# Altium schematic symbol library MCU_ST_STM32F7.SchLib: 113 symbols (part 5 of 7)
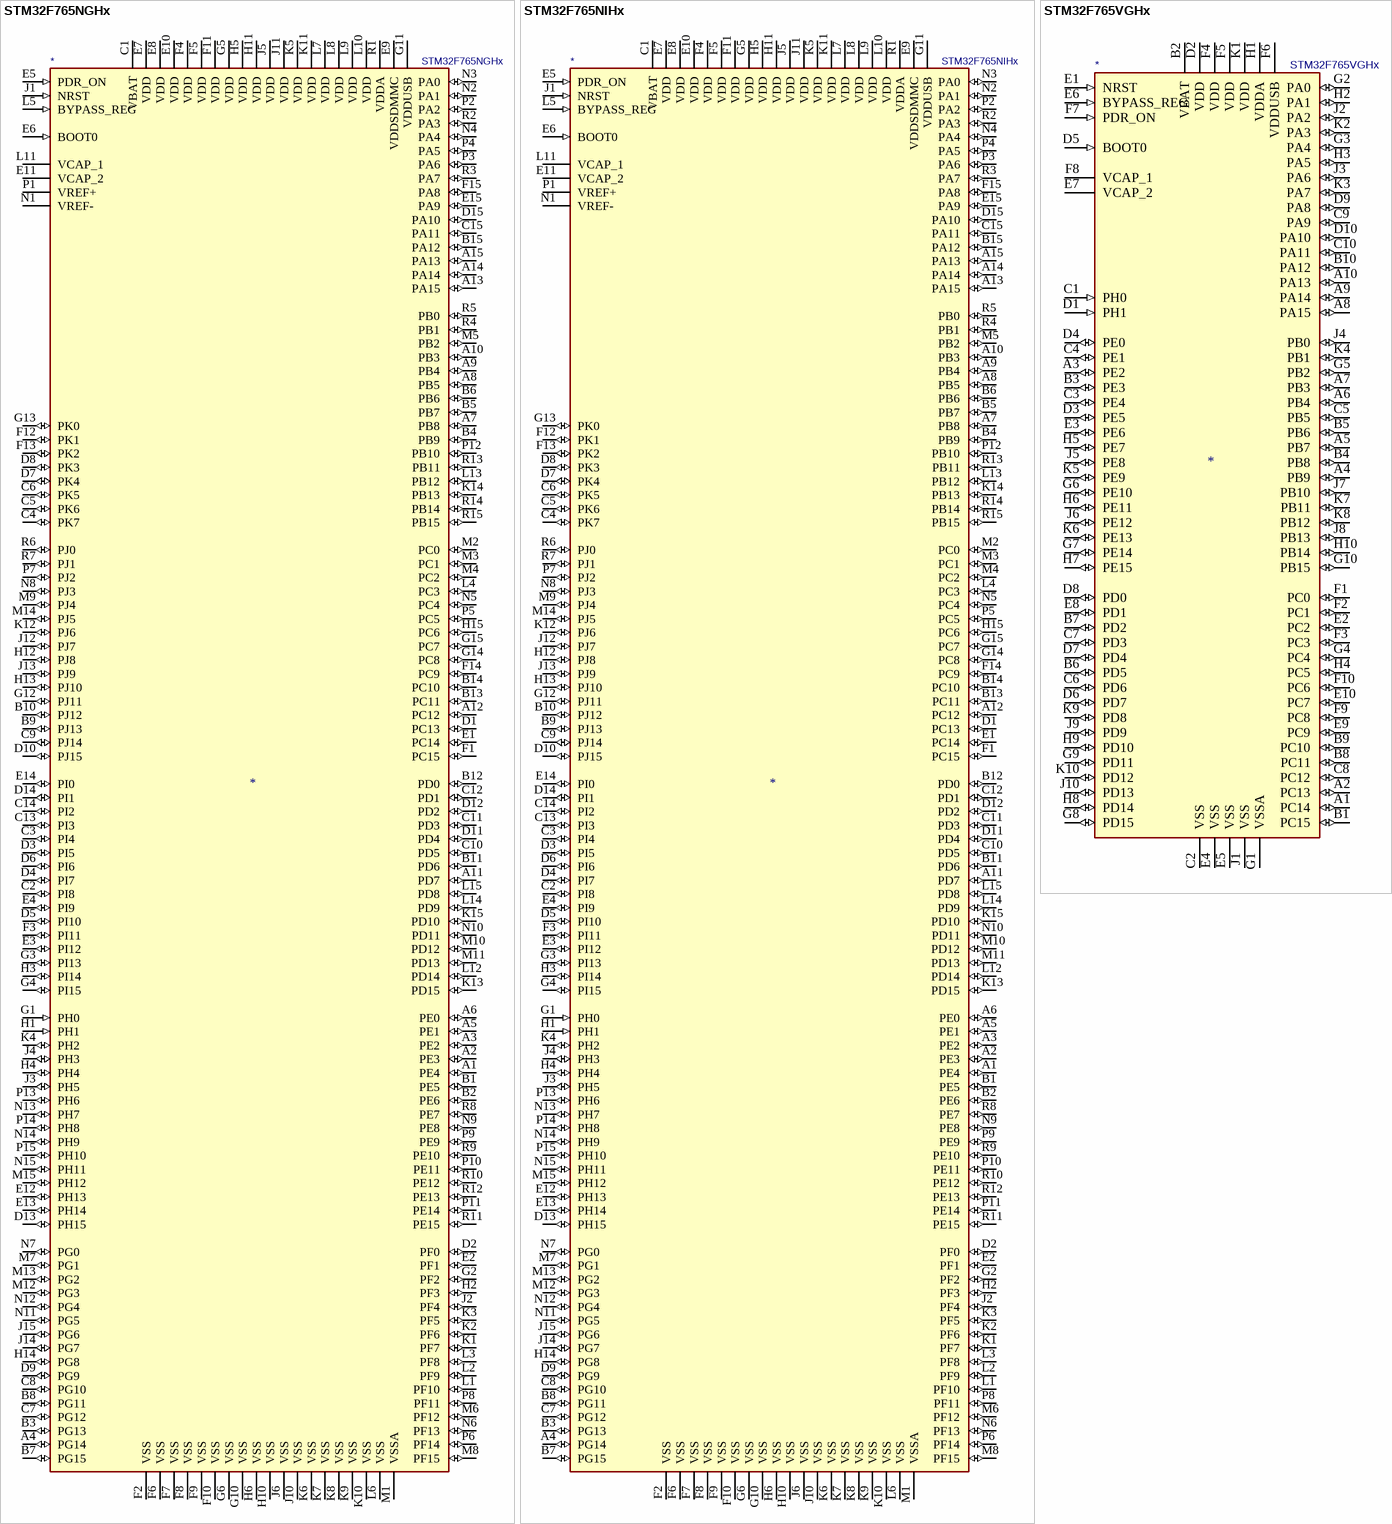
[diagram p45: symbols STM32F765NGHx to STM32F765VGHx]

## STM32F765VGHx
designator *  value STM32F765VGHx
ki_keywords: ARM Cortex-M7 STM32F7 STM32F7x5; ki_description: ARM Cortex-M7 MCU, 1024KB flash, 384KB RAM, 82 GPIO, TFBGA-100; ki_fp_filters: TFBGA*8x8mm*Layout10x10*P0.8mm*; Footprint: Package_BGA:TFBGA-100_8x8mm_Layout10x10_P0.8mm; Supplier: http://www.st.com/st-web-ui/static/active/en/resource/technical/document/datasheet/DM00273119.pdf
footprint TFBGA-100_8x8mm_Layout10x10_P0.8mm
pins: A1 PC14 (io), A2 PC13 (io), A3 PE2 (io), A4 PB9 (io), A5 PB7 (io), A6 PB4 (io), A7 PB3 (io), A8 PA15 (io), A9 PA14 (io), A10 PA13 (io), B1 PC15 (io), B2 VBAT (power), B3 PE3 (io), B4 PB8 (io), B5 PB6 (io), B6 PD5 (io), B7 PD2 (io), B8 PC11 (io), B9 PC10 (io), B10 PA12 (io), C1 PH0 (in), C2 VSS (power), C3 PE4 (io), C4 PE1 (io), C5 PB5 (io), C6 PD6 (io), C7 PD3 (io), C8 PC12 (io), C9 PA9 (io), C10 PA11 (io), D1 PH1 (in), D2 VDD (power), D3 PE5 (io), D4 PE0 (io), D5 BOOT0 (in), D6 PD7 (io), D7 PD4 (io), D8 PD0 (io), D9 PA8 (io), D10 PA10 (io), E1 NRST (in), E2 PC2 (io), E3 PE6 (io), E4 VSS (power), E5 VSS (power), E6 BYPASS_REG (in), E7 VCAP_2 (power), E8 PD1 (io), E9 PC9 (io), E10 PC7 (io), F1 PC0 (io), F2 PC1 (io), F3 PC3 (io), F4 VDD (power), F5 VDD (power), F6 VDDUSB (power), F7 PDR_ON (in), F8 VCAP_1 (power), F9 PC8 (io), F10 PC6 (io), G1 VSSA (power), G2 PA0 (io), G3 PA4 (io), G4 PC4 (io), G5 PB2 (io), G6 PE10 (io), G7 PE14 (io), G8 PD15 (io), G9 PD11 (io), G10 PB15 (io), H1 VDDA (power), H2 PA1 (io), H3 PA5 (io), H4 PC5 (io), H5 PE7 (io), H6 PE11 (io), H7 PE15 (io), H8 PD14 (io), H9 PD10 (io), H10 PB14 (io), J1 VSS (power), J2 PA2 (io), J3 PA6 (io), J4 PB0 (io), J5 PE8 (io), J6 PE12 (io), J7 PB10 (io), J8 PB13 (io), J9 PD9 (io), J10 PD13 (io), K1 VDD (power), K2 PA3 (io), K3 PA7 (io), K4 PB1 (io), K5 PE9 (io), K6 PE13 (io), K7 PB11 (io), K8 PB12 (io), K9 PD8 (io), K10 PD12 (io)

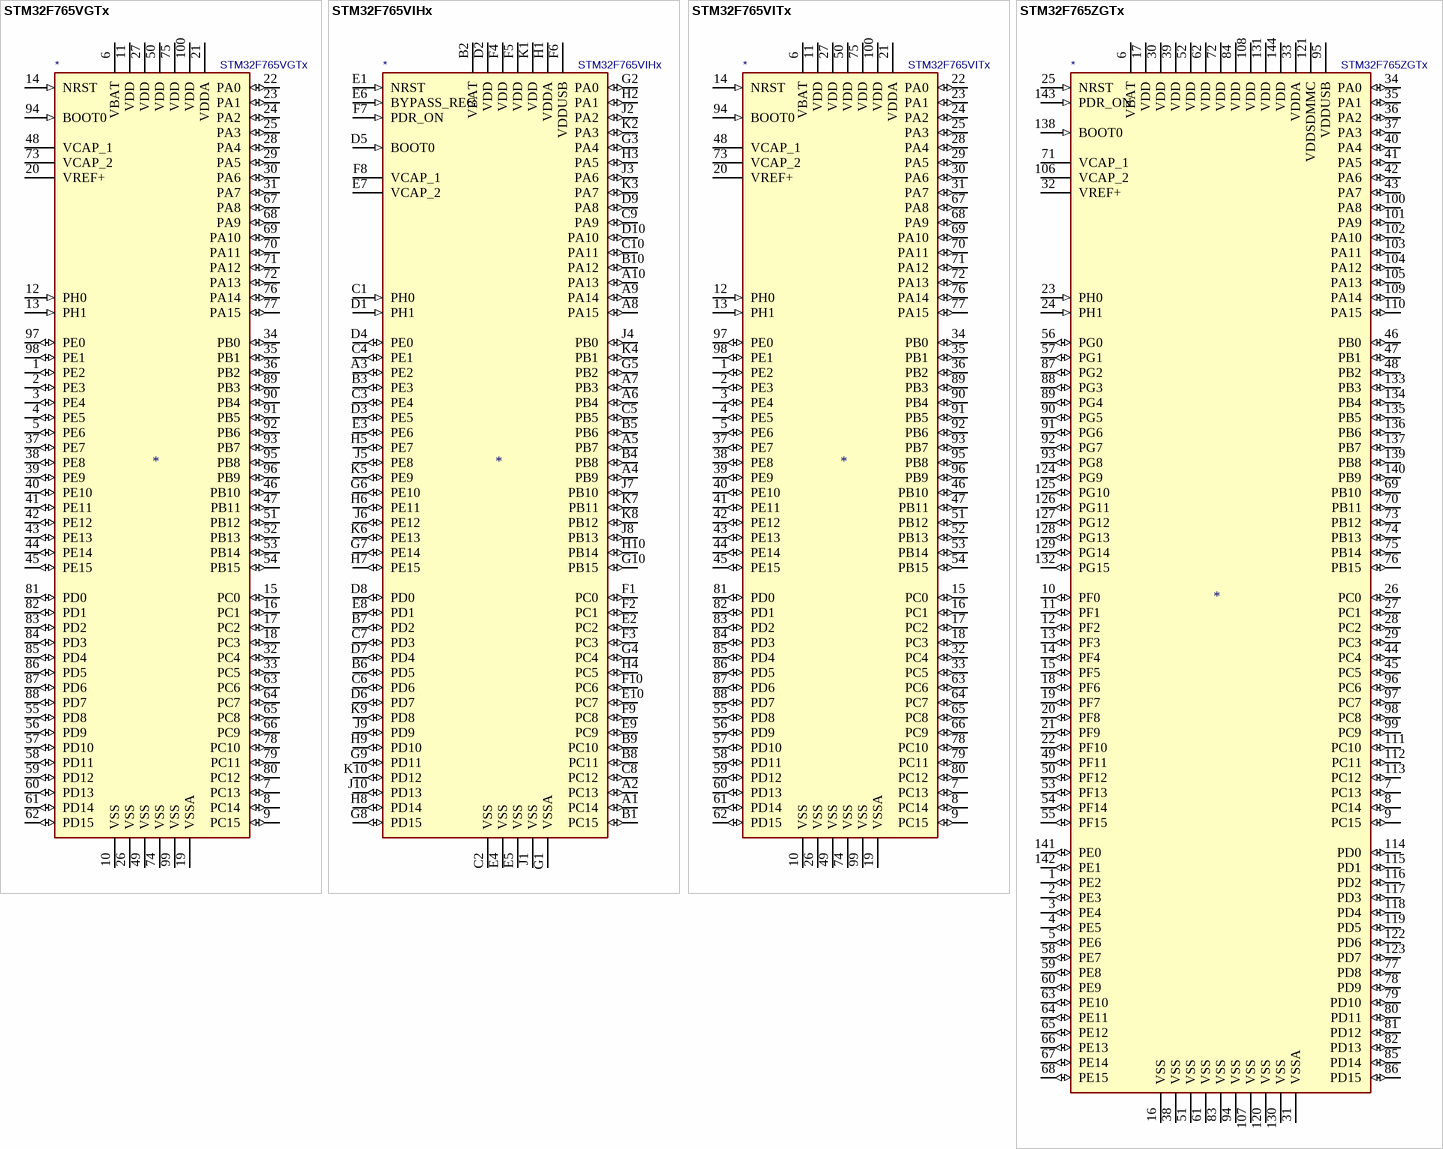
[diagram p27: symbols STM32F765VGTx to STM32F765ZGTx]

## STM32F765VGTx
designator *  value STM32F765VGTx
ki_keywords: ARM Cortex-M7 STM32F7 STM32F7x5; ki_description: ARM Cortex-M7 MCU, 1024KB flash, 384KB RAM, 216MHz, 1.7-3.6V, 82 GPIO, LQFP-100; ki_fp_filters: LQFP*14x14mm*P0.5mm*; Footprint: Package_QFP:LQFP-100_14x14mm_P0.5mm; Supplier: http://www.st.com/st-web-ui/static/active/en/resource/technical/document/datasheet/DM00273119.pdf
footprint LQFP-100_14x14mm_P0.5mm
pins: 1 PE2 (io), 2 PE3 (io), 3 PE4 (io), 4 PE5 (io), 5 PE6 (io), 6 VBAT (power), 7 PC13 (io), 8 PC14 (io), 9 PC15 (io), 10 VSS (power), 11 VDD (power), 12 PH0 (in), 13 PH1 (in), 14 NRST (in), 15 PC0 (io), 16 PC1 (io), 17 PC2 (io), 18 PC3 (io), 19 VSSA (power), 20 VREF+ (power), 21 VDDA (power), 22 PA0 (io), 23 PA1 (io), 24 PA2 (io), 25 PA3 (io), 26 VSS (power), 27 VDD (power), 28 PA4 (io), 29 PA5 (io), 30 PA6 (io), 31 PA7 (io), 32 PC4 (io), 33 PC5 (io), 34 PB0 (io), 35 PB1 (io), 36 PB2 (io), 37 PE7 (io), 38 PE8 (io), 39 PE9 (io), 40 PE10 (io), 41 PE11 (io), 42 PE12 (io), 43 PE13 (io), 44 PE14 (io), 45 PE15 (io), 46 PB10 (io), 47 PB11 (io), 48 VCAP_1 (power), 49 VSS (power), 50 VDD (power), 51 PB12 (io), 52 PB13 (io), 53 PB14 (io), 54 PB15 (io), 55 PD8 (io), 56 PD9 (io), 57 PD10 (io), 58 PD11 (io), 59 PD12 (io), 60 PD13 (io), 61 PD14 (io), 62 PD15 (io), 63 PC6 (io), 64 PC7 (io), 65 PC8 (io), 66 PC9 (io), 67 PA8 (io), 68 PA9 (io), 69 PA10 (io), 70 PA11 (io), 71 PA12 (io), 72 PA13 (io), 73 VCAP_2 (power), 74 VSS (power), 75 VDD (power), 76 PA14 (io), 77 PA15 (io), 78 PC10 (io), 79 PC11 (io), 80 PC12 (io), 81 PD0 (io), 82 PD1 (io), 83 PD2 (io), 84 PD3 (io), 85 PD4 (io), 86 PD5 (io), 87 PD6 (io), 88 PD7 (io), 89 PB3 (io), 90 PB4 (io), 91 PB5 (io), 92 PB6 (io), 93 PB7 (io), 94 BOOT0 (in), 95 PB8 (io), 96 PB9 (io), 97 PE0 (io), 98 PE1 (io), 99 VSS (power), 100 VDD (power)

## STM32F765VIHx
designator *  value STM32F765VIHx
ki_keywords: ARM Cortex-M7 STM32F7 STM32F7x5; ki_description: ARM Cortex-M7 MCU, 2048KB flash, 384KB RAM, 82 GPIO, TFBGA-100; ki_fp_filters: TFBGA*8x8mm*Layout10x10*P0.8mm*; Footprint: Package_BGA:TFBGA-100_8x8mm_Layout10x10_P0.8mm; Supplier: http://www.st.com/st-web-ui/static/active/en/resource/technical/document/datasheet/DM00273119.pdf
footprint TFBGA-100_8x8mm_Layout10x10_P0.8mm
pins: A1 PC14 (io), A2 PC13 (io), A3 PE2 (io), A4 PB9 (io), A5 PB7 (io), A6 PB4 (io), A7 PB3 (io), A8 PA15 (io), A9 PA14 (io), A10 PA13 (io), B1 PC15 (io), B2 VBAT (power), B3 PE3 (io), B4 PB8 (io), B5 PB6 (io), B6 PD5 (io), B7 PD2 (io), B8 PC11 (io), B9 PC10 (io), B10 PA12 (io), C1 PH0 (in), C2 VSS (power), C3 PE4 (io), C4 PE1 (io), C5 PB5 (io), C6 PD6 (io), C7 PD3 (io), C8 PC12 (io), C9 PA9 (io), C10 PA11 (io), D1 PH1 (in), D2 VDD (power), D3 PE5 (io), D4 PE0 (io), D5 BOOT0 (in), D6 PD7 (io), D7 PD4 (io), D8 PD0 (io), D9 PA8 (io), D10 PA10 (io), E1 NRST (in), E2 PC2 (io), E3 PE6 (io), E4 VSS (power), E5 VSS (power), E6 BYPASS_REG (in), E7 VCAP_2 (power), E8 PD1 (io), E9 PC9 (io), E10 PC7 (io), F1 PC0 (io), F2 PC1 (io), F3 PC3 (io), F4 VDD (power), F5 VDD (power), F6 VDDUSB (power), F7 PDR_ON (in), F8 VCAP_1 (power), F9 PC8 (io), F10 PC6 (io), G1 VSSA (power), G2 PA0 (io), G3 PA4 (io), G4 PC4 (io), G5 PB2 (io), G6 PE10 (io), G7 PE14 (io), G8 PD15 (io), G9 PD11 (io), G10 PB15 (io), H1 VDDA (power), H2 PA1 (io), H3 PA5 (io), H4 PC5 (io), H5 PE7 (io), H6 PE11 (io), H7 PE15 (io), H8 PD14 (io), H9 PD10 (io), H10 PB14 (io), J1 VSS (power), J2 PA2 (io), J3 PA6 (io), J4 PB0 (io), J5 PE8 (io), J6 PE12 (io), J7 PB10 (io), J8 PB13 (io), J9 PD9 (io), J10 PD13 (io), K1 VDD (power), K2 PA3 (io), K3 PA7 (io), K4 PB1 (io), K5 PE9 (io), K6 PE13 (io), K7 PB11 (io), K8 PB12 (io), K9 PD8 (io), K10 PD12 (io)

## STM32F765VITx
designator *  value STM32F765VITx
ki_keywords: ARM Cortex-M7 STM32F7 STM32F7x5; ki_description: ARM Cortex-M7 MCU, 2048KB flash, 384KB RAM, 216MHz, 1.7-3.6V, 82 GPIO, LQFP-100; ki_fp_filters: LQFP*14x14mm*P0.5mm*; Footprint: Package_QFP:LQFP-100_14x14mm_P0.5mm; Supplier: http://www.st.com/st-web-ui/static/active/en/resource/technical/document/datasheet/DM00273119.pdf
footprint LQFP-100_14x14mm_P0.5mm
pins: 1 PE2 (io), 2 PE3 (io), 3 PE4 (io), 4 PE5 (io), 5 PE6 (io), 6 VBAT (power), 7 PC13 (io), 8 PC14 (io), 9 PC15 (io), 10 VSS (power), 11 VDD (power), 12 PH0 (in), 13 PH1 (in), 14 NRST (in), 15 PC0 (io), 16 PC1 (io), 17 PC2 (io), 18 PC3 (io), 19 VSSA (power), 20 VREF+ (power), 21 VDDA (power), 22 PA0 (io), 23 PA1 (io), 24 PA2 (io), 25 PA3 (io), 26 VSS (power), 27 VDD (power), 28 PA4 (io), 29 PA5 (io), 30 PA6 (io), 31 PA7 (io), 32 PC4 (io), 33 PC5 (io), 34 PB0 (io), 35 PB1 (io), 36 PB2 (io), 37 PE7 (io), 38 PE8 (io), 39 PE9 (io), 40 PE10 (io), 41 PE11 (io), 42 PE12 (io), 43 PE13 (io), 44 PE14 (io), 45 PE15 (io), 46 PB10 (io), 47 PB11 (io), 48 VCAP_1 (power), 49 VSS (power), 50 VDD (power), 51 PB12 (io), 52 PB13 (io), 53 PB14 (io), 54 PB15 (io), 55 PD8 (io), 56 PD9 (io), 57 PD10 (io), 58 PD11 (io), 59 PD12 (io), 60 PD13 (io), 61 PD14 (io), 62 PD15 (io), 63 PC6 (io), 64 PC7 (io), 65 PC8 (io), 66 PC9 (io), 67 PA8 (io), 68 PA9 (io), 69 PA10 (io), 70 PA11 (io), 71 PA12 (io), 72 PA13 (io), 73 VCAP_2 (power), 74 VSS (power), 75 VDD (power), 76 PA14 (io), 77 PA15 (io), 78 PC10 (io), 79 PC11 (io), 80 PC12 (io), 81 PD0 (io), 82 PD1 (io), 83 PD2 (io), 84 PD3 (io), 85 PD4 (io), 86 PD5 (io), 87 PD6 (io), 88 PD7 (io), 89 PB3 (io), 90 PB4 (io), 91 PB5 (io), 92 PB6 (io), 93 PB7 (io), 94 BOOT0 (in), 95 PB8 (io), 96 PB9 (io), 97 PE0 (io), 98 PE1 (io), 99 VSS (power), 100 VDD (power)

## STM32F765ZGTx
designator *  value STM32F765ZGTx
ki_keywords: ARM Cortex-M7 STM32F7 STM32F7x5; ki_description: ARM Cortex-M7 MCU, 1024KB flash, 384KB RAM, 216MHz, 1.7-3.6V, 114 GPIO, LQFP-144; ki_fp_filters: LQFP*20x20mm*P0.5mm*; Footprint: Package_QFP:LQFP-144_20x20mm_P0.5mm; Supplier: http://www.st.com/st-web-ui/static/active/en/resource/technical/document/datasheet/DM00273119.pdf
footprint LQFP-144_20x20mm_P0.5mm
pins: 1 PE2 (io), 2 PE3 (io), 3 PE4 (io), 4 PE5 (io), 5 PE6 (io), 6 VBAT (power), 7 PC13 (io), 8 PC14 (io), 9 PC15 (io), 10 PF0 (io), 11 PF1 (io), 12 PF2 (io), 13 PF3 (io), 14 PF4 (io), 15 PF5 (io), 16 VSS (power), 17 VDD (power), 18 PF6 (io), 19 PF7 (io), 20 PF8 (io), 21 PF9 (io), 22 PF10 (io), 23 PH0 (in), 24 PH1 (in), 25 NRST (in), 26 PC0 (io), 27 PC1 (io), 28 PC2 (io), 29 PC3 (io), 30 VDD (power), 31 VSSA (power), 32 VREF+ (power), 33 VDDA (power), 34 PA0 (io), 35 PA1 (io), 36 PA2 (io), 37 PA3 (io), 38 VSS (power), 39 VDD (power), 40 PA4 (io), 41 PA5 (io), 42 PA6 (io), 43 PA7 (io), 44 PC4 (io), 45 PC5 (io), 46 PB0 (io), 47 PB1 (io), 48 PB2 (io), 49 PF11 (io), 50 PF12 (io), 51 VSS (power), 52 VDD (power), 53 PF13 (io), 54 PF14 (io), 55 PF15 (io), 56 PG0 (io), 57 PG1 (io), 58 PE7 (io), 59 PE8 (io), 60 PE9 (io), 61 VSS (power), 62 VDD (power), 63 PE10 (io), 64 PE11 (io), 65 PE12 (io), 66 PE13 (io), 67 PE14 (io), 68 PE15 (io), 69 PB10 (io), 70 PB11 (io), 71 VCAP_1 (power), 72 VDD (power), 73 PB12 (io), 74 PB13 (io), 75 PB14 (io), 76 PB15 (io), 77 PD8 (io), 78 PD9 (io), 79 PD10 (io), 80 PD11 (io), 81 PD12 (io), 82 PD13 (io), 83 VSS (power), 84 VDD (power), 85 PD14 (io), 86 PD15 (io), 87 PG2 (io), 88 PG3 (io), 89 PG4 (io), 90 PG5 (io), 91 PG6 (io), 92 PG7 (io), 93 PG8 (io), 94 VSS (power), 95 VDDUSB (power), 96 PC6 (io), 97 PC7 (io), 98 PC8 (io), 99 PC9 (io), 100 PA8 (io), 101 PA9 (io), 102 PA10 (io), 103 PA11 (io), 104 PA12 (io), 105 PA13 (io), 106 VCAP_2 (power), 107 VSS (power), 108 VDD (power), 109 PA14 (io), 110 PA15 (io), 111 PC10 (io), 112 PC11 (io), 113 PC12 (io), 114 PD0 (io), 115 PD1 (io), 116 PD2 (io), 117 PD3 (io), 118 PD4 (io), 119 PD5 (io), 120 VSS (power), 121 VDDSDMMC (power), 122 PD6 (io), 123 PD7 (io), 124 PG9 (io), 125 PG10 (io), 126 PG11 (io), 127 PG12 (io), 128 PG13 (io), 129 PG14 (io), 130 VSS (power), 131 VDD (power), 132 PG15 (io), 133 PB3 (io), 134 PB4 (io), 135 PB5 (io), 136 PB6 (io), 137 PB7 (io), 138 BOOT0 (in), 139 PB8 (io), 140 PB9 (io), 141 PE0 (io), 142 PE1 (io), 143 PDR_ON (in), 144 VDD (power)

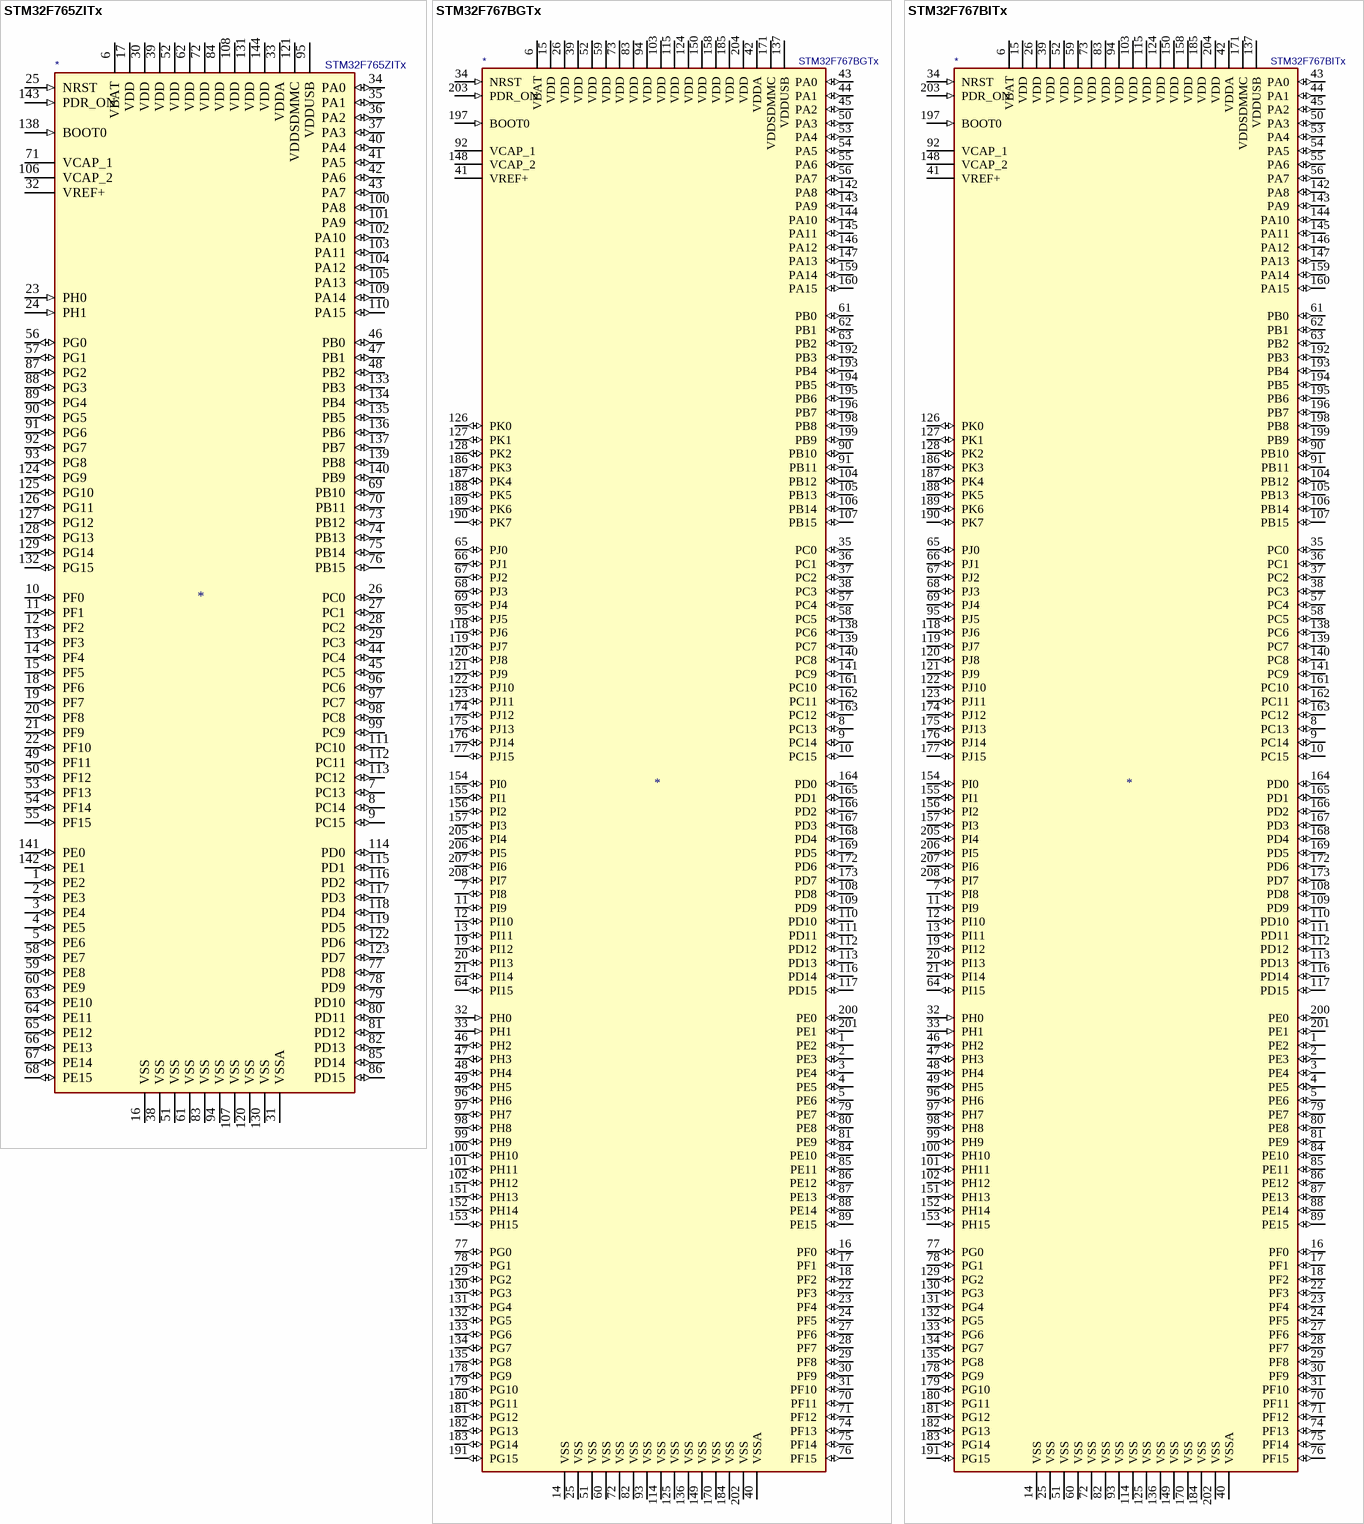
[diagram p28: symbols STM32F765ZITx to STM32F767BITx]

## STM32F765ZITx
designator *  value STM32F765ZITx
ki_keywords: ARM Cortex-M7 STM32F7 STM32F7x5; ki_description: ARM Cortex-M7 MCU, 2048KB flash, 384KB RAM, 216MHz, 1.7-3.6V, 114 GPIO, LQFP-144; ki_fp_filters: LQFP*20x20mm*P0.5mm*; Footprint: Package_QFP:LQFP-144_20x20mm_P0.5mm; Supplier: http://www.st.com/st-web-ui/static/active/en/resource/technical/document/datasheet/DM00273119.pdf
footprint LQFP-144_20x20mm_P0.5mm
pins: 1 PE2 (io), 2 PE3 (io), 3 PE4 (io), 4 PE5 (io), 5 PE6 (io), 6 VBAT (power), 7 PC13 (io), 8 PC14 (io), 9 PC15 (io), 10 PF0 (io), 11 PF1 (io), 12 PF2 (io), 13 PF3 (io), 14 PF4 (io), 15 PF5 (io), 16 VSS (power), 17 VDD (power), 18 PF6 (io), 19 PF7 (io), 20 PF8 (io), 21 PF9 (io), 22 PF10 (io), 23 PH0 (in), 24 PH1 (in), 25 NRST (in), 26 PC0 (io), 27 PC1 (io), 28 PC2 (io), 29 PC3 (io), 30 VDD (power), 31 VSSA (power), 32 VREF+ (power), 33 VDDA (power), 34 PA0 (io), 35 PA1 (io), 36 PA2 (io), 37 PA3 (io), 38 VSS (power), 39 VDD (power), 40 PA4 (io), 41 PA5 (io), 42 PA6 (io), 43 PA7 (io), 44 PC4 (io), 45 PC5 (io), 46 PB0 (io), 47 PB1 (io), 48 PB2 (io), 49 PF11 (io), 50 PF12 (io), 51 VSS (power), 52 VDD (power), 53 PF13 (io), 54 PF14 (io), 55 PF15 (io), 56 PG0 (io), 57 PG1 (io), 58 PE7 (io), 59 PE8 (io), 60 PE9 (io), 61 VSS (power), 62 VDD (power), 63 PE10 (io), 64 PE11 (io), 65 PE12 (io), 66 PE13 (io), 67 PE14 (io), 68 PE15 (io), 69 PB10 (io), 70 PB11 (io), 71 VCAP_1 (power), 72 VDD (power), 73 PB12 (io), 74 PB13 (io), 75 PB14 (io), 76 PB15 (io), 77 PD8 (io), 78 PD9 (io), 79 PD10 (io), 80 PD11 (io), 81 PD12 (io), 82 PD13 (io), 83 VSS (power), 84 VDD (power), 85 PD14 (io), 86 PD15 (io), 87 PG2 (io), 88 PG3 (io), 89 PG4 (io), 90 PG5 (io), 91 PG6 (io), 92 PG7 (io), 93 PG8 (io), 94 VSS (power), 95 VDDUSB (power), 96 PC6 (io), 97 PC7 (io), 98 PC8 (io), 99 PC9 (io), 100 PA8 (io), 101 PA9 (io), 102 PA10 (io), 103 PA11 (io), 104 PA12 (io), 105 PA13 (io), 106 VCAP_2 (power), 107 VSS (power), 108 VDD (power), 109 PA14 (io), 110 PA15 (io), 111 PC10 (io), 112 PC11 (io), 113 PC12 (io), 114 PD0 (io), 115 PD1 (io), 116 PD2 (io), 117 PD3 (io), 118 PD4 (io), 119 PD5 (io), 120 VSS (power), 121 VDDSDMMC (power), 122 PD6 (io), 123 PD7 (io), 124 PG9 (io), 125 PG10 (io), 126 PG11 (io), 127 PG12 (io), 128 PG13 (io), 129 PG14 (io), 130 VSS (power), 131 VDD (power), 132 PG15 (io), 133 PB3 (io), 134 PB4 (io), 135 PB5 (io), 136 PB6 (io), 137 PB7 (io), 138 BOOT0 (in), 139 PB8 (io), 140 PB9 (io), 141 PE0 (io), 142 PE1 (io), 143 PDR_ON (in), 144 VDD (power)

## STM32F767BGTx
designator *  value STM32F767BGTx
ki_keywords: ARM Cortex-M7 STM32F7 STM32F7x7; ki_description: ARM Cortex-M7 MCU, 1024KB flash, 384KB RAM, 216MHz, 1.7-3.6V, 168 GPIO, LQFP-208; ki_fp_filters: LQFP*28x28mm*P0.5mm*; Footprint: Package_QFP:LQFP-208_28x28mm_P0.5mm; Supplier: http://www.st.com/st-web-ui/static/active/en/resource/technical/document/datasheet/DM00273119.pdf
footprint LQFP-208_28x28mm_P0.5mm
pins: 1 PE2 (io), 2 PE3 (io), 3 PE4 (io), 4 PE5 (io), 5 PE6 (io), 6 VBAT (power), 7 PI8 (io), 8 PC13 (io), 9 PC14 (io), 10 PC15 (io), 11 PI9 (io), 12 PI10 (io), 13 PI11 (io), 14 VSS (power), 15 VDD (power), 16 PF0 (io), 17 PF1 (io), 18 PF2 (io), 19 PI12 (io), 20 PI13 (io), 21 PI14 (io), 22 PF3 (io), 23 PF4 (io), 24 PF5 (io), 25 VSS (power), 26 VDD (power), 27 PF6 (io), 28 PF7 (io), 29 PF8 (io), 30 PF9 (io), 31 PF10 (io), 32 PH0 (in), 33 PH1 (in), 34 NRST (in), 35 PC0 (io), 36 PC1 (io), 37 PC2 (io), 38 PC3 (io), 39 VDD (power), 40 VSSA (power), 41 VREF+ (power), 42 VDDA (power), 43 PA0 (io), 44 PA1 (io), 45 PA2 (io), 46 PH2 (io), 47 PH3 (io), 48 PH4 (io), 49 PH5 (io), 50 PA3 (io), 51 VSS (power), 52 VDD (power), 53 PA4 (io), 54 PA5 (io), 55 PA6 (io), 56 PA7 (io), 57 PC4 (io), 58 PC5 (io), 59 VDD (power), 60 VSS (power), 61 PB0 (io), 62 PB1 (io), 63 PB2 (io), 64 PI15 (io), 65 PJ0 (io), 66 PJ1 (io), 67 PJ2 (io), 68 PJ3 (io), 69 PJ4 (io), 70 PF11 (io), 71 PF12 (io), 72 VSS (power), 73 VDD (power), 74 PF13 (io), 75 PF14 (io), 76 PF15 (io), 77 PG0 (io), 78 PG1 (io), 79 PE7 (io), 80 PE8 (io), 81 PE9 (io), 82 VSS (power), 83 VDD (power), 84 PE10 (io), 85 PE11 (io), 86 PE12 (io), 87 PE13 (io), 88 PE14 (io), 89 PE15 (io), 90 PB10 (io), 91 PB11 (io), 92 VCAP_1 (power), 93 VSS (power), 94 VDD (power), 95 PJ5 (io), 96 PH6 (io), 97 PH7 (io), 98 PH8 (io), 99 PH9 (io), 100 PH10 (io), 101 PH11 (io), 102 PH12 (io), 103 VDD (power), 104 PB12 (io), 105 PB13 (io), 106 PB14 (io), 107 PB15 (io), 108 PD8 (io), 109 PD9 (io), 110 PD10 (io), 111 PD11 (io), 112 PD12 (io), 113 PD13 (io), 114 VSS (power), 115 VDD (power), 116 PD14 (io), 117 PD15 (io), 118 PJ6 (io), 119 PJ7 (io), 120 PJ8 (io), 121 PJ9 (io), 122 PJ10 (io), 123 PJ11 (io), 124 VDD (power), 125 VSS (power), 126 PK0 (io), 127 PK1 (io), 128 PK2 (io), 129 PG2 (io), 130 PG3 (io), 131 PG4 (io), 132 PG5 (io), 133 PG6 (io), 134 PG7 (io), 135 PG8 (io), 136 VSS (power), 137 VDDUSB (power), 138 PC6 (io), 139 PC7 (io), 140 PC8 (io), 141 PC9 (io), 142 PA8 (io), 143 PA9 (io), 144 PA10 (io), 145 PA11 (io), 146 PA12 (io), 147 PA13 (io), 148 VCAP_2 (power), 149 VSS (power), 150 VDD (power), 151 PH13 (io), 152 PH14 (io), 153 PH15 (io), 154 PI0 (io), 155 PI1 (io), 156 PI2 (io), 157 PI3 (io), 158 VDD (power), 159 PA14 (io), 160 PA15 (io), 161 PC10 (io), 162 PC11 (io), 163 PC12 (io), 164 PD0 (io), 165 PD1 (io), 166 PD2 (io), 167 PD3 (io), 168 PD4 (io), 169 PD5 (io), 170 VSS (power), 171 VDDSDMMC (power), 172 PD6 (io), 173 PD7 (io), 174 PJ12 (io), 175 PJ13 (io), 176 PJ14 (io), 177 PJ15 (io), 178 PG9 (io), 179 PG10 (io), 180 PG11 (io), 181 PG12 (io), 182 PG13 (io), 183 PG14 (io), 184 VSS (power), 185 VDD (power), 186 PK3 (io), 187 PK4 (io), 188 PK5 (io), 189 PK6 (io), 190 PK7 (io), 191 PG15 (io), 192 PB3 (io), 193 PB4 (io), 194 PB5 (io), 195 PB6 (io), 196 PB7 (io), 197 BOOT0 (in), 198 PB8 (io), 199 PB9 (io), 200 PE0 (io), 201 PE1 (io), 202 VSS (power), 203 PDR_ON (in), 204 VDD (power), 205 PI4 (io), 206 PI5 (io), 207 PI6 (io), 208 PI7 (io)

## STM32F767BITx
designator *  value STM32F767BITx
ki_keywords: ARM Cortex-M7 STM32F7 STM32F7x7; ki_description: ARM Cortex-M7 MCU, 2048KB flash, 384KB RAM, 216MHz, 1.7-3.6V, 168 GPIO, LQFP-208; ki_fp_filters: LQFP*28x28mm*P0.5mm*; Footprint: Package_QFP:LQFP-208_28x28mm_P0.5mm; Supplier: http://www.st.com/st-web-ui/static/active/en/resource/technical/document/datasheet/DM00273119.pdf
footprint LQFP-208_28x28mm_P0.5mm
pins: 1 PE2 (io), 2 PE3 (io), 3 PE4 (io), 4 PE5 (io), 5 PE6 (io), 6 VBAT (power), 7 PI8 (io), 8 PC13 (io), 9 PC14 (io), 10 PC15 (io), 11 PI9 (io), 12 PI10 (io), 13 PI11 (io), 14 VSS (power), 15 VDD (power), 16 PF0 (io), 17 PF1 (io), 18 PF2 (io), 19 PI12 (io), 20 PI13 (io), 21 PI14 (io), 22 PF3 (io), 23 PF4 (io), 24 PF5 (io), 25 VSS (power), 26 VDD (power), 27 PF6 (io), 28 PF7 (io), 29 PF8 (io), 30 PF9 (io), 31 PF10 (io), 32 PH0 (in), 33 PH1 (in), 34 NRST (in), 35 PC0 (io), 36 PC1 (io), 37 PC2 (io), 38 PC3 (io), 39 VDD (power), 40 VSSA (power), 41 VREF+ (power), 42 VDDA (power), 43 PA0 (io), 44 PA1 (io), 45 PA2 (io), 46 PH2 (io), 47 PH3 (io), 48 PH4 (io), 49 PH5 (io), 50 PA3 (io), 51 VSS (power), 52 VDD (power), 53 PA4 (io), 54 PA5 (io), 55 PA6 (io), 56 PA7 (io), 57 PC4 (io), 58 PC5 (io), 59 VDD (power), 60 VSS (power), 61 PB0 (io), 62 PB1 (io), 63 PB2 (io), 64 PI15 (io), 65 PJ0 (io), 66 PJ1 (io), 67 PJ2 (io), 68 PJ3 (io), 69 PJ4 (io), 70 PF11 (io), 71 PF12 (io), 72 VSS (power), 73 VDD (power), 74 PF13 (io), 75 PF14 (io), 76 PF15 (io), 77 PG0 (io), 78 PG1 (io), 79 PE7 (io), 80 PE8 (io), 81 PE9 (io), 82 VSS (power), 83 VDD (power), 84 PE10 (io), 85 PE11 (io), 86 PE12 (io), 87 PE13 (io), 88 PE14 (io), 89 PE15 (io), 90 PB10 (io), 91 PB11 (io), 92 VCAP_1 (power), 93 VSS (power), 94 VDD (power), 95 PJ5 (io), 96 PH6 (io), 97 PH7 (io), 98 PH8 (io), 99 PH9 (io), 100 PH10 (io), 101 PH11 (io), 102 PH12 (io), 103 VDD (power), 104 PB12 (io), 105 PB13 (io), 106 PB14 (io), 107 PB15 (io), 108 PD8 (io), 109 PD9 (io), 110 PD10 (io), 111 PD11 (io), 112 PD12 (io), 113 PD13 (io), 114 VSS (power), 115 VDD (power), 116 PD14 (io), 117 PD15 (io), 118 PJ6 (io), 119 PJ7 (io), 120 PJ8 (io), 121 PJ9 (io), 122 PJ10 (io), 123 PJ11 (io), 124 VDD (power), 125 VSS (power), 126 PK0 (io), 127 PK1 (io), 128 PK2 (io), 129 PG2 (io), 130 PG3 (io), 131 PG4 (io), 132 PG5 (io), 133 PG6 (io), 134 PG7 (io), 135 PG8 (io), 136 VSS (power), 137 VDDUSB (power), 138 PC6 (io), 139 PC7 (io), 140 PC8 (io), 141 PC9 (io), 142 PA8 (io), 143 PA9 (io), 144 PA10 (io), 145 PA11 (io), 146 PA12 (io), 147 PA13 (io), 148 VCAP_2 (power), 149 VSS (power), 150 VDD (power), 151 PH13 (io), 152 PH14 (io), 153 PH15 (io), 154 PI0 (io), 155 PI1 (io), 156 PI2 (io), 157 PI3 (io), 158 VDD (power), 159 PA14 (io), 160 PA15 (io), 161 PC10 (io), 162 PC11 (io), 163 PC12 (io), 164 PD0 (io), 165 PD1 (io), 166 PD2 (io), 167 PD3 (io), 168 PD4 (io), 169 PD5 (io), 170 VSS (power), 171 VDDSDMMC (power), 172 PD6 (io), 173 PD7 (io), 174 PJ12 (io), 175 PJ13 (io), 176 PJ14 (io), 177 PJ15 (io), 178 PG9 (io), 179 PG10 (io), 180 PG11 (io), 181 PG12 (io), 182 PG13 (io), 183 PG14 (io), 184 VSS (power), 185 VDD (power), 186 PK3 (io), 187 PK4 (io), 188 PK5 (io), 189 PK6 (io), 190 PK7 (io), 191 PG15 (io), 192 PB3 (io), 193 PB4 (io), 194 PB5 (io), 195 PB6 (io), 196 PB7 (io), 197 BOOT0 (in), 198 PB8 (io), 199 PB9 (io), 200 PE0 (io), 201 PE1 (io), 202 VSS (power), 203 PDR_ON (in), 204 VDD (power), 205 PI4 (io), 206 PI5 (io), 207 PI6 (io), 208 PI7 (io)

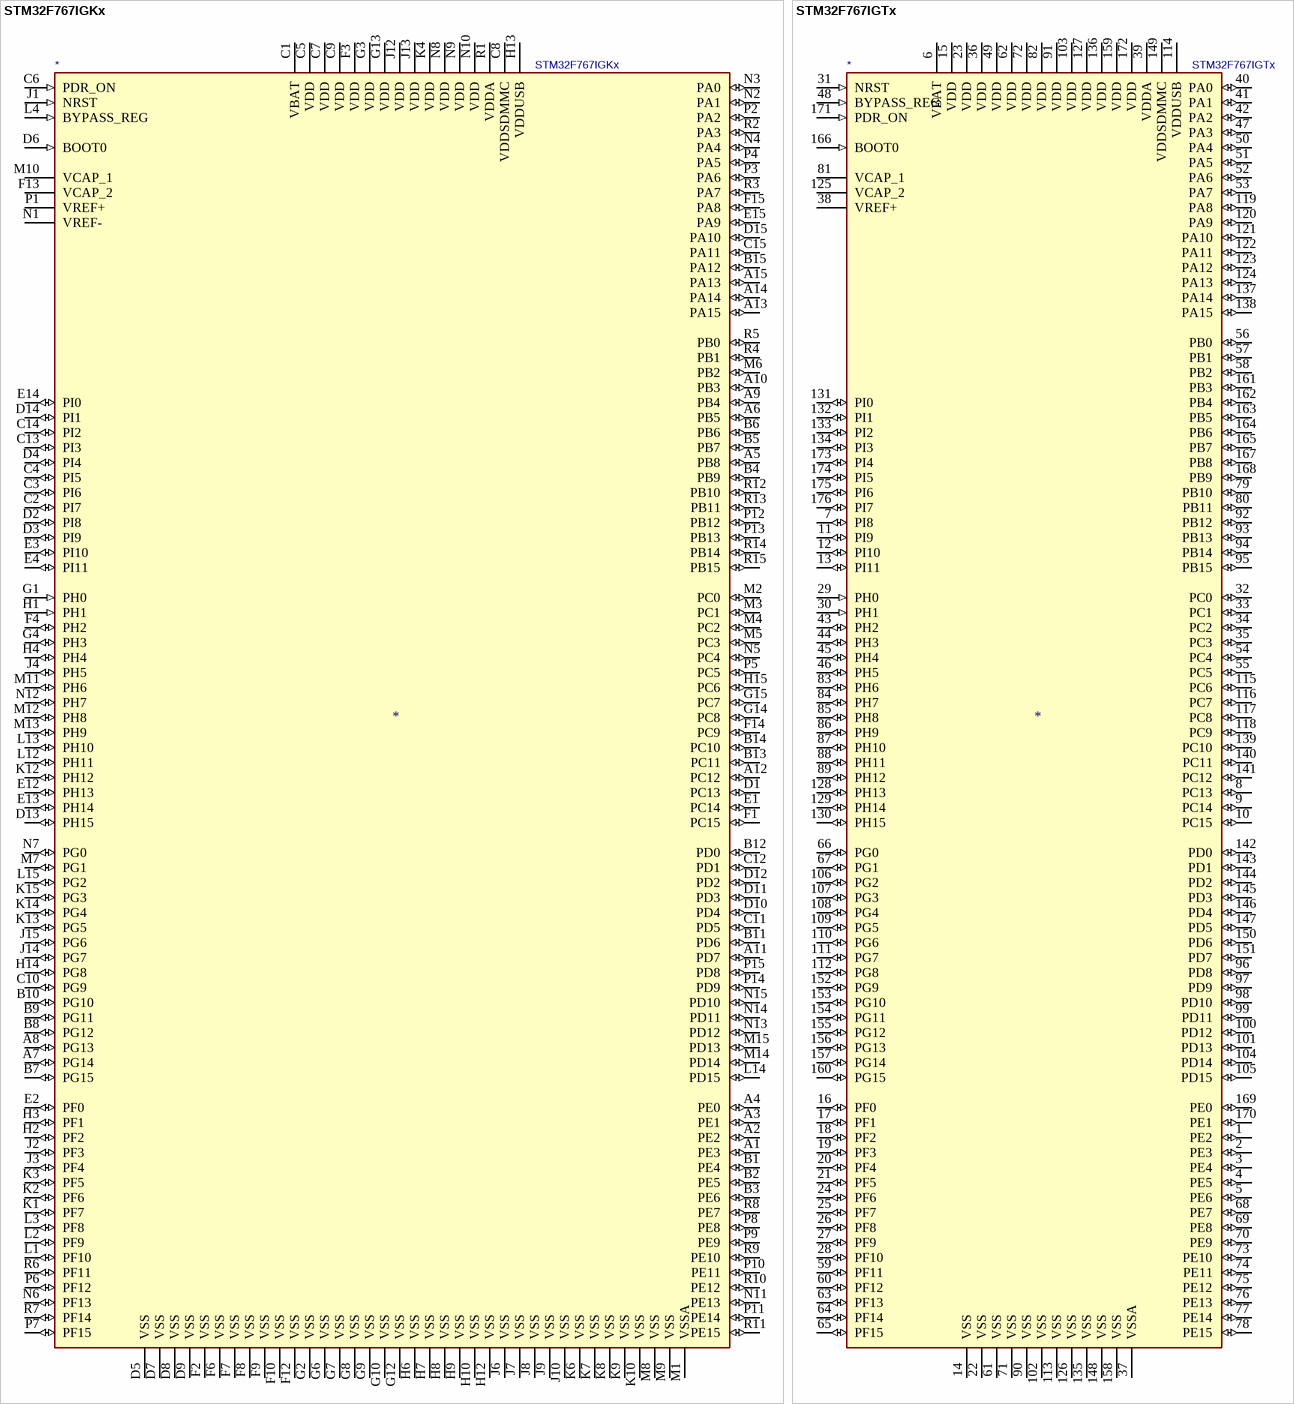
[diagram p29: symbols STM32F767IGKx to STM32F767IGTx]

## STM32F767IGKx
designator *  value STM32F767IGKx
ki_keywords: ARM Cortex-M7 STM32F7 STM32F7x7; ki_description: ARM Cortex-M7 MCU, 1024KB flash, 384KB RAM, 216MHz, 1.7-3.6V, 140 GPIO, UFBGA-176; ki_fp_filters: UFBGA*10x10mm*Layout15x15*P0.65mm*; Footprint: Package_BGA:UFBGA-201_10x10mm_Layout15x15_P0.65mm; Supplier: http://www.st.com/st-web-ui/static/active/en/resource/technical/document/datasheet/DM00273119.pdf
footprint UFBGA-201_10x10mm_Layout15x15_P0.65mm
pins: A1 PE3 (io), A2 PE2 (io), A3 PE1 (io), A4 PE0 (io), A5 PB8 (io), A6 PB5 (io), A7 PG14 (io), A8 PG13 (io), A9 PB4 (io), A10 PB3 (io), A11 PD7 (io), A12 PC12 (io), A13 PA15 (io), A14 PA14 (io), A15 PA13 (io), B1 PE4 (io), B2 PE5 (io), B3 PE6 (io), B4 PB9 (io), B5 PB7 (io), B6 PB6 (io), B7 PG15 (io), B8 PG12 (io), B9 PG11 (io), B10 PG10 (io), B11 PD6 (io), B12 PD0 (io), B13 PC11 (io), B14 PC10 (io), B15 PA12 (io), C1 VBAT (power), C2 PI7 (io), C3 PI6 (io), C4 PI5 (io), C5 VDD (power), C6 PDR_ON (in), C7 VDD (power), C8 VDDSDMMC (power), C9 VDD (power), C10 PG9 (io), C11 PD5 (io), C12 PD1 (io), C13 PI3 (io), C14 PI2 (io), C15 PA11 (io), D1 PC13 (io), D2 PI8 (io), D3 PI9 (io), D4 PI4 (io), D5 VSS (power), D6 BOOT0 (in), D7 VSS (power), D8 VSS (power), D9 VSS (power), D10 PD4 (io), D11 PD3 (io), D12 PD2 (io), D13 PH15 (io), D14 PI1 (io), D15 PA10 (io), E1 PC14 (io), E2 PF0 (io), E3 PI10 (io), E4 PI11 (io), E12 PH13 (io), E13 PH14 (io), E14 PI0 (io), E15 PA9 (io), F1 PC15 (io), F2 VSS (power), F3 VDD (power), F4 PH2 (io), F6 VSS (power), F7 VSS (power), F8 VSS (power), F9 VSS (power), F10 VSS (power), F12 VSS (power), F13 VCAP_2 (power), F14 PC9 (io), F15 PA8 (io), G1 PH0 (in), G2 VSS (power), G3 VDD (power), G4 PH3 (io), G6 VSS (power), G7 VSS (power), G8 VSS (power), G9 VSS (power), G10 VSS (power), G12 VSS (power), G13 VDD (power), G14 PC8 (io), G15 PC7 (io), H1 PH1 (in), H2 PF2 (io), H3 PF1 (io), H4 PH4 (io), H6 VSS (power), H7 VSS (power), H8 VSS (power), H9 VSS (power), H10 VSS (power), H12 VSS (power), H13 VDDUSB (power), H14 PG8 (io), H15 PC6 (io), J1 NRST (in), J2 PF3 (io), J3 PF4 (io), J4 PH5 (io), J6 VSS (power), J7 VSS (power), J8 VSS (power), J9 VSS (power), J10 VSS (power), J12 VDD (power), J13 VDD (power), J14 PG7 (io), J15 PG6 (io), K1 PF7 (io), K2 PF6 (io), K3 PF5 (io), K4 VDD (power), K6 VSS (power), K7 VSS (power), K8 VSS (power), K9 VSS (power), K10 VSS (power), K12 PH12 (io), K13 PG5 (io), K14 PG4 (io), K15 PG3 (io), L1 PF10 (io), L2 PF9 (io), L3 PF8 (io), L4 BYPASS_REG (in), L12 PH11 (io), L13 PH10 (io), L14 PD15 (io), L15 PG2 (io), M1 VSSA (power), M2 PC0 (io), M3 PC1 (io), M4 PC2 (io), M5 PC3 (io), M6 PB2 (io), M7 PG1 (io), M8 VSS (power), M9 VSS (power), M10 VCAP_1 (power), M11 PH6 (io), M12 PH8 (io), M13 PH9 (io), M14 PD14 (io), M15 PD13 (io), N1 VREF- (power), N2 PA1 (io), N3 PA0 (io), N4 PA4 (io), N5 PC4 (io), N6 PF13 (io), N7 PG0 (io), N8 VDD (power), N9 VDD (power), N10 VDD (power), N11 PE13 (io), N12 PH7 (io), N13 PD12 (io), N14 PD11 (io), N15 PD10 (io), P1 VREF+ (power), P2 PA2 (io), P3 PA6 (io), P4 PA5 (io), P5 PC5 (io), P6 PF12 (io), P7 PF15 (io), P8 PE8 (io), P9 PE9 (io), P10 PE11 (io), P11 PE14 (io), P12 PB12 (io), P13 PB13 (io), P14 PD9 (io), P15 PD8 (io), R1 VDDA (power), R2 PA3 (io), R3 PA7 (io), R4 PB1 (io), R5 PB0 (io), R6 PF11 (io), R7 PF14 (io), R8 PE7 (io), R9 PE10 (io), R10 PE12 (io), R11 PE15 (io), R12 PB10 (io), R13 PB11 (io), R14 PB14 (io), R15 PB15 (io)

## STM32F767IGTx
designator *  value STM32F767IGTx
ki_keywords: ARM Cortex-M7 STM32F7 STM32F7x7; ki_description: ARM Cortex-M7 MCU, 1024KB flash, 384KB RAM, 216MHz, 1.7-3.6V, 140 GPIO, LQFP-176; ki_fp_filters: LQFP*24x24mm*P0.5mm*; Footprint: Package_QFP:LQFP-176_24x24mm_P0.5mm; Supplier: http://www.st.com/st-web-ui/static/active/en/resource/technical/document/datasheet/DM00273119.pdf
footprint LQFP-176_24x24mm_P0.5mm
pins: 1 PE2 (io), 2 PE3 (io), 3 PE4 (io), 4 PE5 (io), 5 PE6 (io), 6 VBAT (power), 7 PI8 (io), 8 PC13 (io), 9 PC14 (io), 10 PC15 (io), 11 PI9 (io), 12 PI10 (io), 13 PI11 (io), 14 VSS (power), 15 VDD (power), 16 PF0 (io), 17 PF1 (io), 18 PF2 (io), 19 PF3 (io), 20 PF4 (io), 21 PF5 (io), 22 VSS (power), 23 VDD (power), 24 PF6 (io), 25 PF7 (io), 26 PF8 (io), 27 PF9 (io), 28 PF10 (io), 29 PH0 (in), 30 PH1 (in), 31 NRST (in), 32 PC0 (io), 33 PC1 (io), 34 PC2 (io), 35 PC3 (io), 36 VDD (power), 37 VSSA (power), 38 VREF+ (power), 39 VDDA (power), 40 PA0 (io), 41 PA1 (io), 42 PA2 (io), 43 PH2 (io), 44 PH3 (io), 45 PH4 (io), 46 PH5 (io), 47 PA3 (io), 48 BYPASS_REG (in), 49 VDD (power), 50 PA4 (io), 51 PA5 (io), 52 PA6 (io), 53 PA7 (io), 54 PC4 (io), 55 PC5 (io), 56 PB0 (io), 57 PB1 (io), 58 PB2 (io), 59 PF11 (io), 60 PF12 (io), 61 VSS (power), 62 VDD (power), 63 PF13 (io), 64 PF14 (io), 65 PF15 (io), 66 PG0 (io), 67 PG1 (io), 68 PE7 (io), 69 PE8 (io), 70 PE9 (io), 71 VSS (power), 72 VDD (power), 73 PE10 (io), 74 PE11 (io), 75 PE12 (io), 76 PE13 (io), 77 PE14 (io), 78 PE15 (io), 79 PB10 (io), 80 PB11 (io), 81 VCAP_1 (power), 82 VDD (power), 83 PH6 (io), 84 PH7 (io), 85 PH8 (io), 86 PH9 (io), 87 PH10 (io), 88 PH11 (io), 89 PH12 (io), 90 VSS (power), 91 VDD (power), 92 PB12 (io), 93 PB13 (io), 94 PB14 (io), 95 PB15 (io), 96 PD8 (io), 97 PD9 (io), 98 PD10 (io), 99 PD11 (io), 100 PD12 (io), 101 PD13 (io), 102 VSS (power), 103 VDD (power), 104 PD14 (io), 105 PD15 (io), 106 PG2 (io), 107 PG3 (io), 108 PG4 (io), 109 PG5 (io), 110 PG6 (io), 111 PG7 (io), 112 PG8 (io), 113 VSS (power), 114 VDDUSB (power), 115 PC6 (io), 116 PC7 (io), 117 PC8 (io), 118 PC9 (io), 119 PA8 (io), 120 PA9 (io), 121 PA10 (io), 122 PA11 (io), 123 PA12 (io), 124 PA13 (io), 125 VCAP_2 (power), 126 VSS (power), 127 VDD (power), 128 PH13 (io), 129 PH14 (io), 130 PH15 (io), 131 PI0 (io), 132 PI1 (io), 133 PI2 (io), 134 PI3 (io), 135 VSS (power), 136 VDD (power), 137 PA14 (io), 138 PA15 (io), 139 PC10 (io), 140 PC11 (io), 141 PC12 (io), 142 PD0 (io), 143 PD1 (io), 144 PD2 (io), 145 PD3 (io), 146 PD4 (io), 147 PD5 (io), 148 VSS (power), 149 VDDSDMMC (power), 150 PD6 (io), 151 PD7 (io), 152 PG9 (io), 153 PG10 (io), 154 PG11 (io), 155 PG12 (io), 156 PG13 (io), 157 PG14 (io), 158 VSS (power), 159 VDD (power), 160 PG15 (io), 161 PB3 (io), 162 PB4 (io), 163 PB5 (io), 164 PB6 (io), 165 PB7 (io), 166 BOOT0 (in), 167 PB8 (io), 168 PB9 (io), 169 PE0 (io), 170 PE1 (io), 171 PDR_ON (in), 172 VDD (power), 173 PI4 (io), 174 PI5 (io), 175 PI6 (io), 176 PI7 (io)

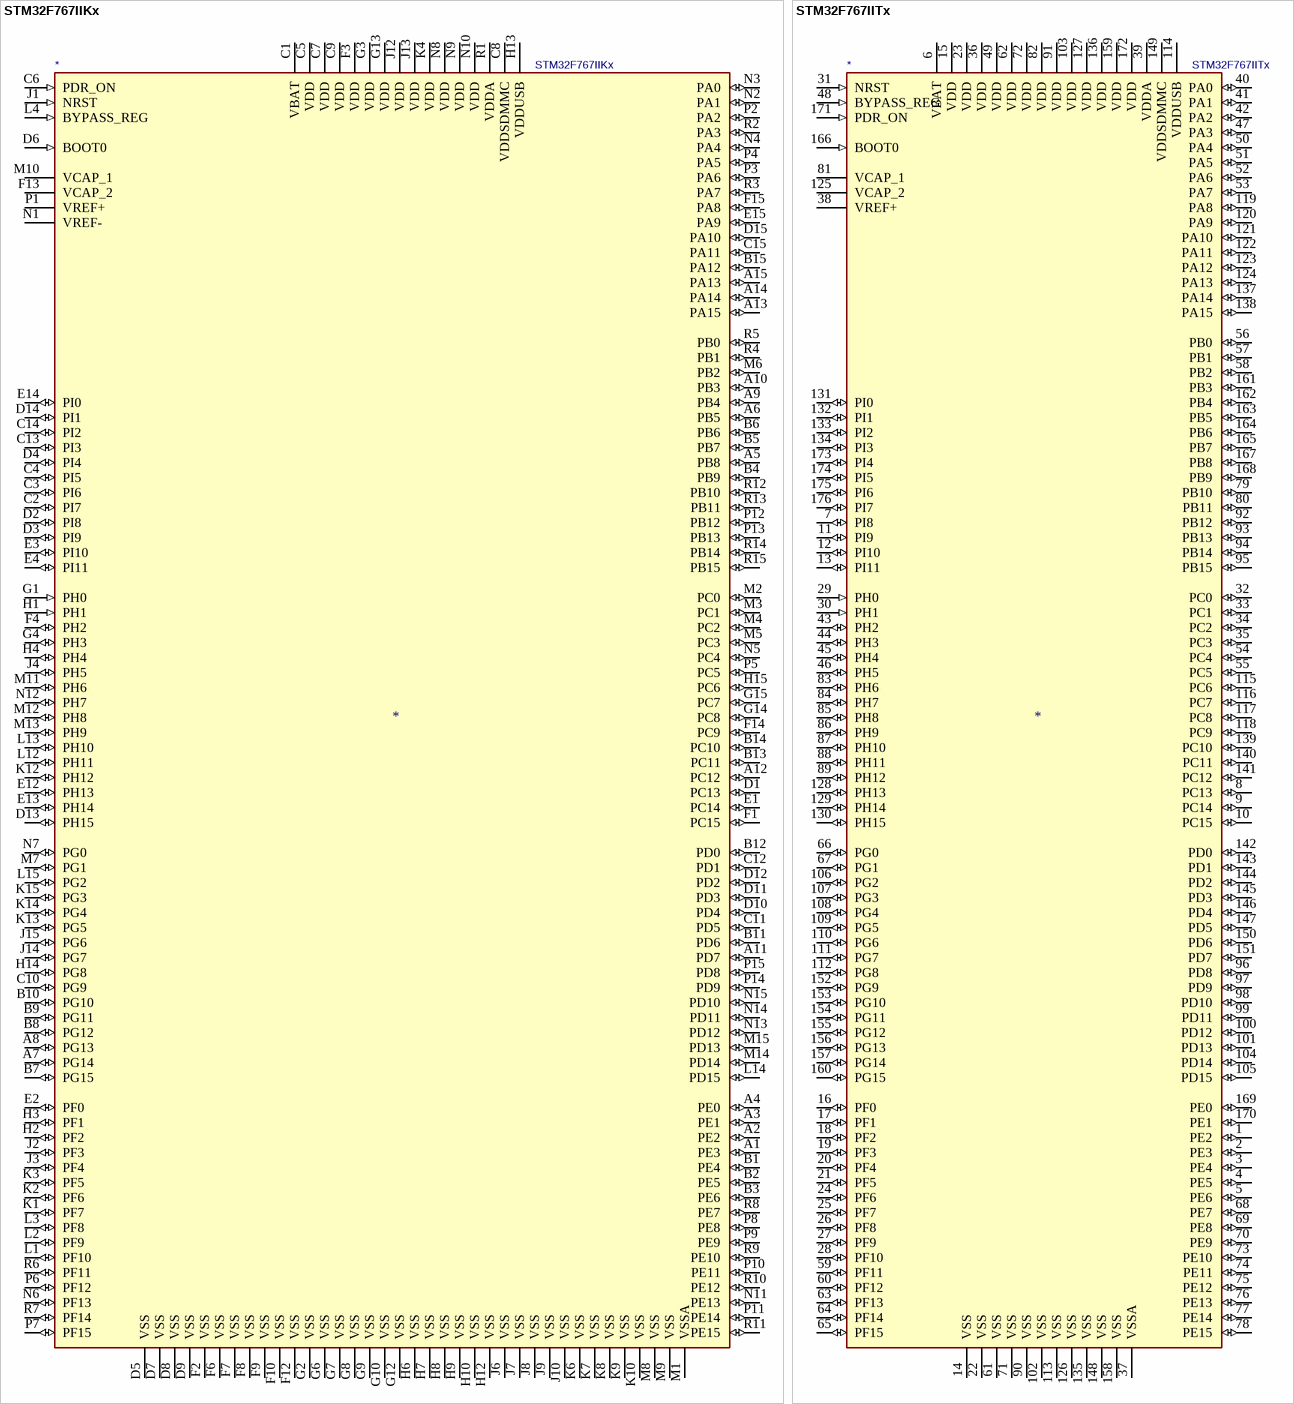
[diagram p30: symbols STM32F767IIKx to STM32F767IITx]

## STM32F767IIKx
designator *  value STM32F767IIKx
ki_keywords: ARM Cortex-M7 STM32F7 STM32F7x7; ki_description: ARM Cortex-M7 MCU, 2048KB flash, 384KB RAM, 216MHz, 1.7-3.6V, 140 GPIO, UFBGA-176; ki_fp_filters: UFBGA*10x10mm*Layout15x15*P0.65mm*; Footprint: Package_BGA:UFBGA-201_10x10mm_Layout15x15_P0.65mm; Supplier: http://www.st.com/st-web-ui/static/active/en/resource/technical/document/datasheet/DM00273119.pdf
footprint UFBGA-201_10x10mm_Layout15x15_P0.65mm
pins: A1 PE3 (io), A2 PE2 (io), A3 PE1 (io), A4 PE0 (io), A5 PB8 (io), A6 PB5 (io), A7 PG14 (io), A8 PG13 (io), A9 PB4 (io), A10 PB3 (io), A11 PD7 (io), A12 PC12 (io), A13 PA15 (io), A14 PA14 (io), A15 PA13 (io), B1 PE4 (io), B2 PE5 (io), B3 PE6 (io), B4 PB9 (io), B5 PB7 (io), B6 PB6 (io), B7 PG15 (io), B8 PG12 (io), B9 PG11 (io), B10 PG10 (io), B11 PD6 (io), B12 PD0 (io), B13 PC11 (io), B14 PC10 (io), B15 PA12 (io), C1 VBAT (power), C2 PI7 (io), C3 PI6 (io), C4 PI5 (io), C5 VDD (power), C6 PDR_ON (in), C7 VDD (power), C8 VDDSDMMC (power), C9 VDD (power), C10 PG9 (io), C11 PD5 (io), C12 PD1 (io), C13 PI3 (io), C14 PI2 (io), C15 PA11 (io), D1 PC13 (io), D2 PI8 (io), D3 PI9 (io), D4 PI4 (io), D5 VSS (power), D6 BOOT0 (in), D7 VSS (power), D8 VSS (power), D9 VSS (power), D10 PD4 (io), D11 PD3 (io), D12 PD2 (io), D13 PH15 (io), D14 PI1 (io), D15 PA10 (io), E1 PC14 (io), E2 PF0 (io), E3 PI10 (io), E4 PI11 (io), E12 PH13 (io), E13 PH14 (io), E14 PI0 (io), E15 PA9 (io), F1 PC15 (io), F2 VSS (power), F3 VDD (power), F4 PH2 (io), F6 VSS (power), F7 VSS (power), F8 VSS (power), F9 VSS (power), F10 VSS (power), F12 VSS (power), F13 VCAP_2 (power), F14 PC9 (io), F15 PA8 (io), G1 PH0 (in), G2 VSS (power), G3 VDD (power), G4 PH3 (io), G6 VSS (power), G7 VSS (power), G8 VSS (power), G9 VSS (power), G10 VSS (power), G12 VSS (power), G13 VDD (power), G14 PC8 (io), G15 PC7 (io), H1 PH1 (in), H2 PF2 (io), H3 PF1 (io), H4 PH4 (io), H6 VSS (power), H7 VSS (power), H8 VSS (power), H9 VSS (power), H10 VSS (power), H12 VSS (power), H13 VDDUSB (power), H14 PG8 (io), H15 PC6 (io), J1 NRST (in), J2 PF3 (io), J3 PF4 (io), J4 PH5 (io), J6 VSS (power), J7 VSS (power), J8 VSS (power), J9 VSS (power), J10 VSS (power), J12 VDD (power), J13 VDD (power), J14 PG7 (io), J15 PG6 (io), K1 PF7 (io), K2 PF6 (io), K3 PF5 (io), K4 VDD (power), K6 VSS (power), K7 VSS (power), K8 VSS (power), K9 VSS (power), K10 VSS (power), K12 PH12 (io), K13 PG5 (io), K14 PG4 (io), K15 PG3 (io), L1 PF10 (io), L2 PF9 (io), L3 PF8 (io), L4 BYPASS_REG (in), L12 PH11 (io), L13 PH10 (io), L14 PD15 (io), L15 PG2 (io), M1 VSSA (power), M2 PC0 (io), M3 PC1 (io), M4 PC2 (io), M5 PC3 (io), M6 PB2 (io), M7 PG1 (io), M8 VSS (power), M9 VSS (power), M10 VCAP_1 (power), M11 PH6 (io), M12 PH8 (io), M13 PH9 (io), M14 PD14 (io), M15 PD13 (io), N1 VREF- (power), N2 PA1 (io), N3 PA0 (io), N4 PA4 (io), N5 PC4 (io), N6 PF13 (io), N7 PG0 (io), N8 VDD (power), N9 VDD (power), N10 VDD (power), N11 PE13 (io), N12 PH7 (io), N13 PD12 (io), N14 PD11 (io), N15 PD10 (io), P1 VREF+ (power), P2 PA2 (io), P3 PA6 (io), P4 PA5 (io), P5 PC5 (io), P6 PF12 (io), P7 PF15 (io), P8 PE8 (io), P9 PE9 (io), P10 PE11 (io), P11 PE14 (io), P12 PB12 (io), P13 PB13 (io), P14 PD9 (io), P15 PD8 (io), R1 VDDA (power), R2 PA3 (io), R3 PA7 (io), R4 PB1 (io), R5 PB0 (io), R6 PF11 (io), R7 PF14 (io), R8 PE7 (io), R9 PE10 (io), R10 PE12 (io), R11 PE15 (io), R12 PB10 (io), R13 PB11 (io), R14 PB14 (io), R15 PB15 (io)

## STM32F767IITx
designator *  value STM32F767IITx
ki_keywords: ARM Cortex-M7 STM32F7 STM32F7x7; ki_description: ARM Cortex-M7 MCU, 2048KB flash, 384KB RAM, 216MHz, 1.7-3.6V, 140 GPIO, LQFP-176; ki_fp_filters: LQFP*24x24mm*P0.5mm*; Footprint: Package_QFP:LQFP-176_24x24mm_P0.5mm; Supplier: http://www.st.com/st-web-ui/static/active/en/resource/technical/document/datasheet/DM00273119.pdf
footprint LQFP-176_24x24mm_P0.5mm
pins: 1 PE2 (io), 2 PE3 (io), 3 PE4 (io), 4 PE5 (io), 5 PE6 (io), 6 VBAT (power), 7 PI8 (io), 8 PC13 (io), 9 PC14 (io), 10 PC15 (io), 11 PI9 (io), 12 PI10 (io), 13 PI11 (io), 14 VSS (power), 15 VDD (power), 16 PF0 (io), 17 PF1 (io), 18 PF2 (io), 19 PF3 (io), 20 PF4 (io), 21 PF5 (io), 22 VSS (power), 23 VDD (power), 24 PF6 (io), 25 PF7 (io), 26 PF8 (io), 27 PF9 (io), 28 PF10 (io), 29 PH0 (in), 30 PH1 (in), 31 NRST (in), 32 PC0 (io), 33 PC1 (io), 34 PC2 (io), 35 PC3 (io), 36 VDD (power), 37 VSSA (power), 38 VREF+ (power), 39 VDDA (power), 40 PA0 (io), 41 PA1 (io), 42 PA2 (io), 43 PH2 (io), 44 PH3 (io), 45 PH4 (io), 46 PH5 (io), 47 PA3 (io), 48 BYPASS_REG (in), 49 VDD (power), 50 PA4 (io), 51 PA5 (io), 52 PA6 (io), 53 PA7 (io), 54 PC4 (io), 55 PC5 (io), 56 PB0 (io), 57 PB1 (io), 58 PB2 (io), 59 PF11 (io), 60 PF12 (io), 61 VSS (power), 62 VDD (power), 63 PF13 (io), 64 PF14 (io), 65 PF15 (io), 66 PG0 (io), 67 PG1 (io), 68 PE7 (io), 69 PE8 (io), 70 PE9 (io), 71 VSS (power), 72 VDD (power), 73 PE10 (io), 74 PE11 (io), 75 PE12 (io), 76 PE13 (io), 77 PE14 (io), 78 PE15 (io), 79 PB10 (io), 80 PB11 (io), 81 VCAP_1 (power), 82 VDD (power), 83 PH6 (io), 84 PH7 (io), 85 PH8 (io), 86 PH9 (io), 87 PH10 (io), 88 PH11 (io), 89 PH12 (io), 90 VSS (power), 91 VDD (power), 92 PB12 (io), 93 PB13 (io), 94 PB14 (io), 95 PB15 (io), 96 PD8 (io), 97 PD9 (io), 98 PD10 (io), 99 PD11 (io), 100 PD12 (io), 101 PD13 (io), 102 VSS (power), 103 VDD (power), 104 PD14 (io), 105 PD15 (io), 106 PG2 (io), 107 PG3 (io), 108 PG4 (io), 109 PG5 (io), 110 PG6 (io), 111 PG7 (io), 112 PG8 (io), 113 VSS (power), 114 VDDUSB (power), 115 PC6 (io), 116 PC7 (io), 117 PC8 (io), 118 PC9 (io), 119 PA8 (io), 120 PA9 (io), 121 PA10 (io), 122 PA11 (io), 123 PA12 (io), 124 PA13 (io), 125 VCAP_2 (power), 126 VSS (power), 127 VDD (power), 128 PH13 (io), 129 PH14 (io), 130 PH15 (io), 131 PI0 (io), 132 PI1 (io), 133 PI2 (io), 134 PI3 (io), 135 VSS (power), 136 VDD (power), 137 PA14 (io), 138 PA15 (io), 139 PC10 (io), 140 PC11 (io), 141 PC12 (io), 142 PD0 (io), 143 PD1 (io), 144 PD2 (io), 145 PD3 (io), 146 PD4 (io), 147 PD5 (io), 148 VSS (power), 149 VDDSDMMC (power), 150 PD6 (io), 151 PD7 (io), 152 PG9 (io), 153 PG10 (io), 154 PG11 (io), 155 PG12 (io), 156 PG13 (io), 157 PG14 (io), 158 VSS (power), 159 VDD (power), 160 PG15 (io), 161 PB3 (io), 162 PB4 (io), 163 PB5 (io), 164 PB6 (io), 165 PB7 (io), 166 BOOT0 (in), 167 PB8 (io), 168 PB9 (io), 169 PE0 (io), 170 PE1 (io), 171 PDR_ON (in), 172 VDD (power), 173 PI4 (io), 174 PI5 (io), 175 PI6 (io), 176 PI7 (io)

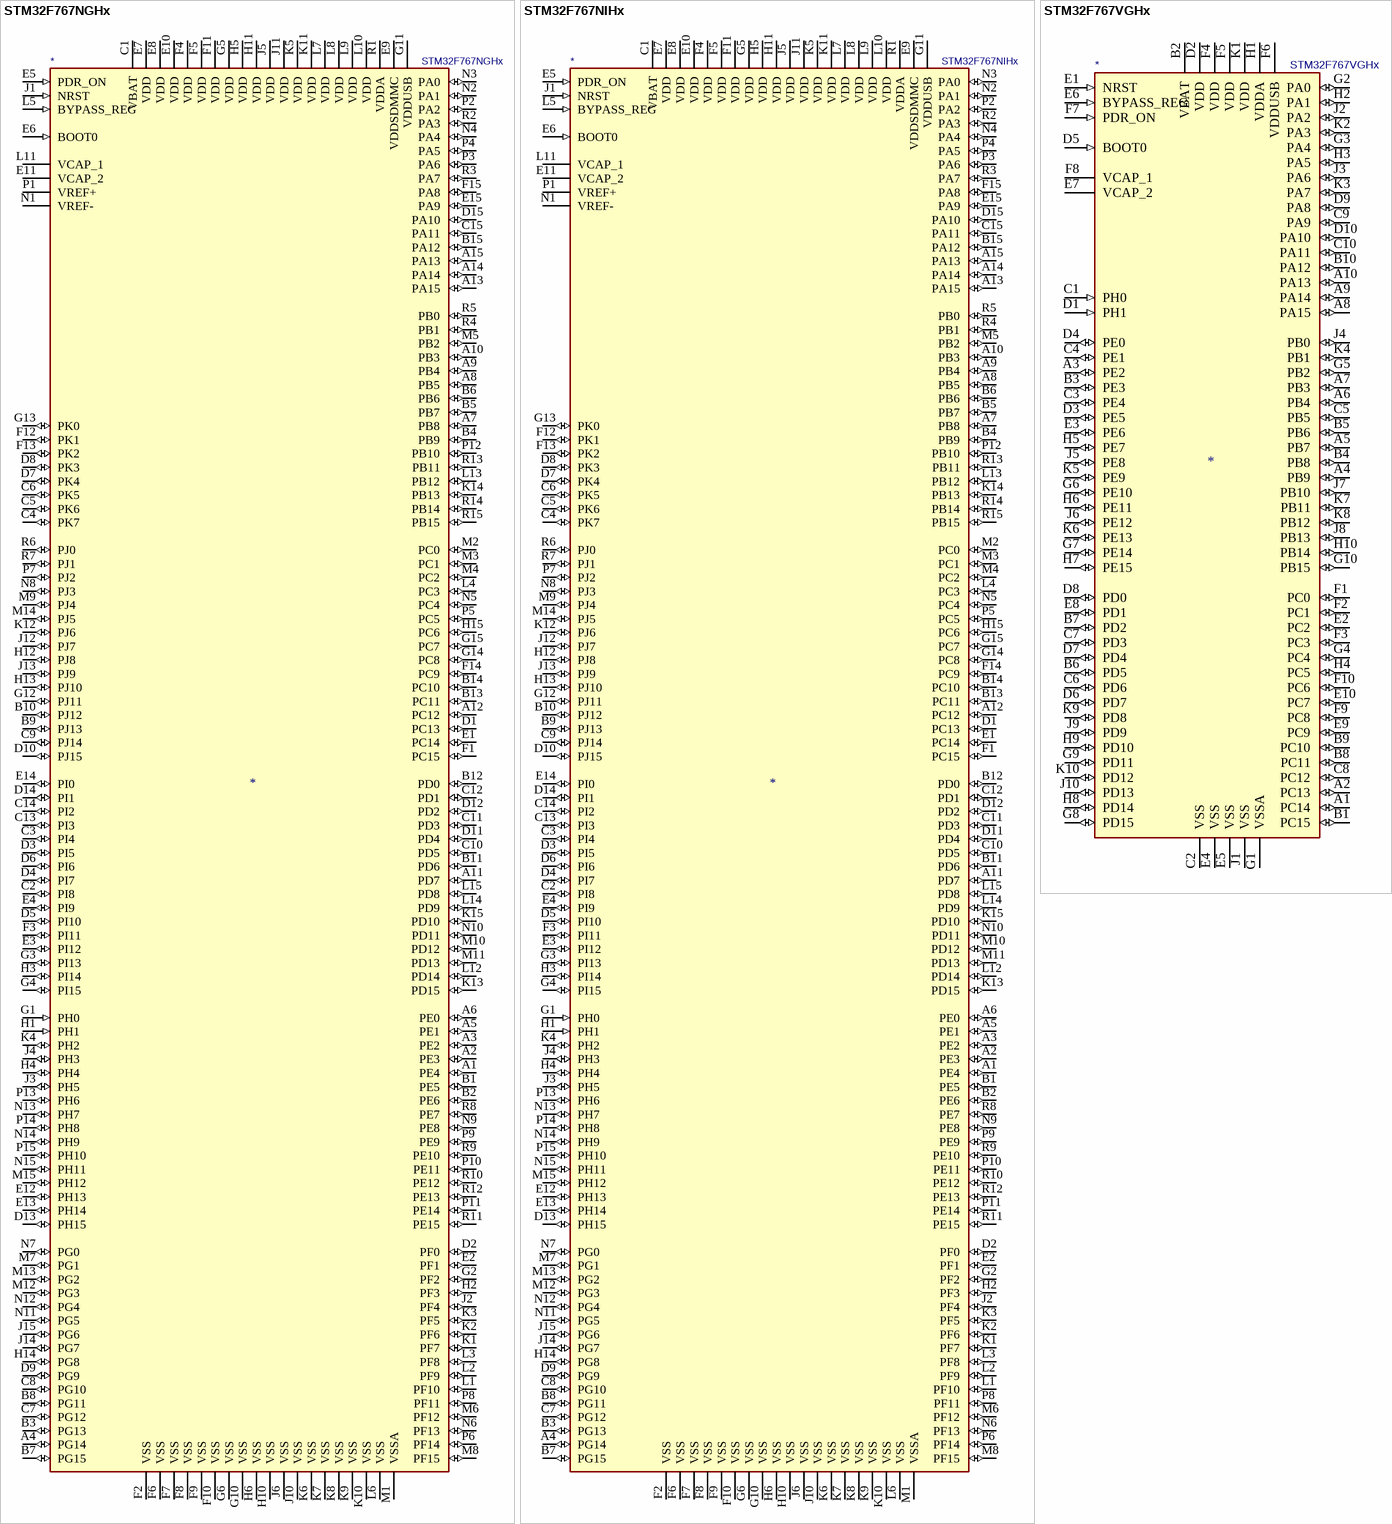
[diagram p31: symbols STM32F767NGHx to STM32F767VGHx]

## STM32F767NGHx
designator *  value STM32F767NGHx
ki_keywords: ARM Cortex-M7 STM32F7 STM32F7x7; ki_description: ARM Cortex-M7 MCU, 1024KB flash, 384KB RAM, 216MHz, 1.7-3.6V, 168 GPIO, TFBGA-216; ki_fp_filters: TFBGA*13x13mm*Layout15x15*P0.8mm*; Footprint: Package_BGA:TFBGA-216_13x13mm_Layout15x15_P0.8mm; Supplier: http://www.st.com/st-web-ui/static/active/en/resource/technical/document/datasheet/DM00273119.pdf
footprint TFBGA-216_13x13mm_Layout15x15_P0.8mm
pins: A1 PE4 (io), A2 PE3 (io), A3 PE2 (io), A4 PG14 (io), A5 PE1 (io), A6 PE0 (io), A7 PB8 (io), A8 PB5 (io), A9 PB4 (io), A10 PB3 (io), A11 PD7 (io), A12 PC12 (io), A13 PA15 (io), A14 PA14 (io), A15 PA13 (io), B1 PE5 (io), B2 PE6 (io), B3 PG13 (io), B4 PB9 (io), B5 PB7 (io), B6 PB6 (io), B7 PG15 (io), B8 PG11 (io), B9 PJ13 (io), B10 PJ12 (io), B11 PD6 (io), B12 PD0 (io), B13 PC11 (io), B14 PC10 (io), B15 PA12 (io), C1 VBAT (power), C2 PI8 (io), C3 PI4 (io), C4 PK7 (io), C5 PK6 (io), C6 PK5 (io), C7 PG12 (io), C8 PG10 (io), C9 PJ14 (io), C10 PD5 (io), C11 PD3 (io), C12 PD1 (io), C13 PI3 (io), C14 PI2 (io), C15 PA11 (io), D1 PC13 (io), D2 PF0 (io), D3 PI5 (io), D4 PI7 (io), D5 PI10 (io), D6 PI6 (io), D7 PK4 (io), D8 PK3 (io), D9 PG9 (io), D10 PJ15 (io), D11 PD4 (io), D12 PD2 (io), D13 PH15 (io), D14 PI1 (io), D15 PA10 (io), E1 PC14 (io), E2 PF1 (io), E3 PI12 (io), E4 PI9 (io), E5 PDR_ON (in), E6 BOOT0 (in), E7 VDD (power), E8 VDD (power), E9 VDDSDMMC (power), E10 VDD (power), E11 VCAP_2 (power), E12 PH13 (io), E13 PH14 (io), E14 PI0 (io), E15 PA9 (io), F1 PC15 (io), F2 VSS (power), F3 PI11 (io), F4 VDD (power), F5 VDD (power), F6 VSS (power), F7 VSS (power), F8 VSS (power), F9 VSS (power), F10 VSS (power), F11 VDD (power), F12 PK1 (io), F13 PK2 (io), F14 PC9 (io), F15 PA8 (io), G1 PH0 (in), G2 PF2 (io), G3 PI13 (io), G4 PI15 (io), G5 VDD (power), G6 VSS (power), G10 VSS (power), G11 VDDUSB (power), G12 PJ11 (io), G13 PK0 (io), G14 PC8 (io), G15 PC7 (io), H1 PH1 (in), H2 PF3 (io), H3 PI14 (io), H4 PH4 (io), H5 VDD (power), H6 VSS (power), H10 VSS (power), H11 VDD (power), H12 PJ8 (io), H13 PJ10 (io), H14 PG8 (io), H15 PC6 (io), J1 NRST (in), J2 PF4 (io), J3 PH5 (io), J4 PH3 (io), J5 VDD (power), J6 VSS (power), J10 VSS (power), J11 VDD (power), J12 PJ7 (io), J13 PJ9 (io), J14 PG7 (io), J15 PG6 (io), K1 PF7 (io), K2 PF6 (io), K3 PF5 (io), K4 PH2 (io), K5 VDD (power), K6 VSS (power), K7 VSS (power), K8 VSS (power), K9 VSS (power), K10 VSS (power), K11 VDD (power), K12 PJ6 (io), K13 PD15 (io), K14 PB13 (io), K15 PD10 (io), L1 PF10 (io), L2 PF9 (io), L3 PF8 (io), L4 PC3 (io), L5 BYPASS_REG (in), L6 VSS (power), L7 VDD (power), L8 VDD (power), L9 VDD (power), L10 VDD (power), L11 VCAP_1 (power), L12 PD14 (io), L13 PB12 (io), L14 PD9 (io), L15 PD8 (io), M1 VSSA (power), M2 PC0 (io), M3 PC1 (io), M4 PC2 (io), M5 PB2 (io), M6 PF12 (io), M7 PG1 (io), M8 PF15 (io), M9 PJ4 (io), M10 PD12 (io), M11 PD13 (io), M12 PG3 (io), M13 PG2 (io), M14 PJ5 (io), M15 PH12 (io), N1 VREF- (power), N2 PA1 (io), N3 PA0 (io), N4 PA4 (io), N5 PC4 (io), N6 PF13 (io), N7 PG0 (io), N8 PJ3 (io), N9 PE8 (io), N10 PD11 (io), N11 PG5 (io), N12 PG4 (io), N13 PH7 (io), N14 PH9 (io), N15 PH11 (io), P1 VREF+ (power), P2 PA2 (io), P3 PA6 (io), P4 PA5 (io), P5 PC5 (io), P6 PF14 (io), P7 PJ2 (io), P8 PF11 (io), P9 PE9 (io), P10 PE11 (io), P11 PE14 (io), P12 PB10 (io), P13 PH6 (io), P14 PH8 (io), P15 PH10 (io), R1 VDDA (power), R2 PA3 (io), R3 PA7 (io), R4 PB1 (io), R5 PB0 (io), R6 PJ0 (io), R7 PJ1 (io), R8 PE7 (io), R9 PE10 (io), R10 PE12 (io), R11 PE15 (io), R12 PE13 (io), R13 PB11 (io), R14 PB14 (io), R15 PB15 (io)

## STM32F767NIHx
designator *  value STM32F767NIHx
ki_keywords: ARM Cortex-M7 STM32F7 STM32F7x7; ki_description: ARM Cortex-M7 MCU, 2048KB flash, 384KB RAM, 216MHz, 1.7-3.6V, 168 GPIO, TFBGA-216; ki_fp_filters: TFBGA*13x13mm*Layout15x15*P0.8mm*; Footprint: Package_BGA:TFBGA-216_13x13mm_Layout15x15_P0.8mm; Supplier: http://www.st.com/st-web-ui/static/active/en/resource/technical/document/datasheet/DM00273119.pdf
footprint TFBGA-216_13x13mm_Layout15x15_P0.8mm
pins: A1 PE4 (io), A2 PE3 (io), A3 PE2 (io), A4 PG14 (io), A5 PE1 (io), A6 PE0 (io), A7 PB8 (io), A8 PB5 (io), A9 PB4 (io), A10 PB3 (io), A11 PD7 (io), A12 PC12 (io), A13 PA15 (io), A14 PA14 (io), A15 PA13 (io), B1 PE5 (io), B2 PE6 (io), B3 PG13 (io), B4 PB9 (io), B5 PB7 (io), B6 PB6 (io), B7 PG15 (io), B8 PG11 (io), B9 PJ13 (io), B10 PJ12 (io), B11 PD6 (io), B12 PD0 (io), B13 PC11 (io), B14 PC10 (io), B15 PA12 (io), C1 VBAT (power), C2 PI8 (io), C3 PI4 (io), C4 PK7 (io), C5 PK6 (io), C6 PK5 (io), C7 PG12 (io), C8 PG10 (io), C9 PJ14 (io), C10 PD5 (io), C11 PD3 (io), C12 PD1 (io), C13 PI3 (io), C14 PI2 (io), C15 PA11 (io), D1 PC13 (io), D2 PF0 (io), D3 PI5 (io), D4 PI7 (io), D5 PI10 (io), D6 PI6 (io), D7 PK4 (io), D8 PK3 (io), D9 PG9 (io), D10 PJ15 (io), D11 PD4 (io), D12 PD2 (io), D13 PH15 (io), D14 PI1 (io), D15 PA10 (io), E1 PC14 (io), E2 PF1 (io), E3 PI12 (io), E4 PI9 (io), E5 PDR_ON (in), E6 BOOT0 (in), E7 VDD (power), E8 VDD (power), E9 VDDSDMMC (power), E10 VDD (power), E11 VCAP_2 (power), E12 PH13 (io), E13 PH14 (io), E14 PI0 (io), E15 PA9 (io), F1 PC15 (io), F2 VSS (power), F3 PI11 (io), F4 VDD (power), F5 VDD (power), F6 VSS (power), F7 VSS (power), F8 VSS (power), F9 VSS (power), F10 VSS (power), F11 VDD (power), F12 PK1 (io), F13 PK2 (io), F14 PC9 (io), F15 PA8 (io), G1 PH0 (in), G2 PF2 (io), G3 PI13 (io), G4 PI15 (io), G5 VDD (power), G6 VSS (power), G10 VSS (power), G11 VDDUSB (power), G12 PJ11 (io), G13 PK0 (io), G14 PC8 (io), G15 PC7 (io), H1 PH1 (in), H2 PF3 (io), H3 PI14 (io), H4 PH4 (io), H5 VDD (power), H6 VSS (power), H10 VSS (power), H11 VDD (power), H12 PJ8 (io), H13 PJ10 (io), H14 PG8 (io), H15 PC6 (io), J1 NRST (in), J2 PF4 (io), J3 PH5 (io), J4 PH3 (io), J5 VDD (power), J6 VSS (power), J10 VSS (power), J11 VDD (power), J12 PJ7 (io), J13 PJ9 (io), J14 PG7 (io), J15 PG6 (io), K1 PF7 (io), K2 PF6 (io), K3 PF5 (io), K4 PH2 (io), K5 VDD (power), K6 VSS (power), K7 VSS (power), K8 VSS (power), K9 VSS (power), K10 VSS (power), K11 VDD (power), K12 PJ6 (io), K13 PD15 (io), K14 PB13 (io), K15 PD10 (io), L1 PF10 (io), L2 PF9 (io), L3 PF8 (io), L4 PC3 (io), L5 BYPASS_REG (in), L6 VSS (power), L7 VDD (power), L8 VDD (power), L9 VDD (power), L10 VDD (power), L11 VCAP_1 (power), L12 PD14 (io), L13 PB12 (io), L14 PD9 (io), L15 PD8 (io), M1 VSSA (power), M2 PC0 (io), M3 PC1 (io), M4 PC2 (io), M5 PB2 (io), M6 PF12 (io), M7 PG1 (io), M8 PF15 (io), M9 PJ4 (io), M10 PD12 (io), M11 PD13 (io), M12 PG3 (io), M13 PG2 (io), M14 PJ5 (io), M15 PH12 (io), N1 VREF- (power), N2 PA1 (io), N3 PA0 (io), N4 PA4 (io), N5 PC4 (io), N6 PF13 (io), N7 PG0 (io), N8 PJ3 (io), N9 PE8 (io), N10 PD11 (io), N11 PG5 (io), N12 PG4 (io), N13 PH7 (io), N14 PH9 (io), N15 PH11 (io), P1 VREF+ (power), P2 PA2 (io), P3 PA6 (io), P4 PA5 (io), P5 PC5 (io), P6 PF14 (io), P7 PJ2 (io), P8 PF11 (io), P9 PE9 (io), P10 PE11 (io), P11 PE14 (io), P12 PB10 (io), P13 PH6 (io), P14 PH8 (io), P15 PH10 (io), R1 VDDA (power), R2 PA3 (io), R3 PA7 (io), R4 PB1 (io), R5 PB0 (io), R6 PJ0 (io), R7 PJ1 (io), R8 PE7 (io), R9 PE10 (io), R10 PE12 (io), R11 PE15 (io), R12 PE13 (io), R13 PB11 (io), R14 PB14 (io), R15 PB15 (io)

## STM32F767VGHx
designator *  value STM32F767VGHx
ki_keywords: ARM Cortex-M7 STM32F7 STM32F7x7; ki_description: ARM Cortex-M7 MCU, 1024KB flash, 384KB RAM, 216MHz, 1.7-3.6V, 82 GPIO, TFBGA-100; ki_fp_filters: TFBGA*8x8mm*Layout10x10*P0.8mm*; Footprint: Package_BGA:TFBGA-100_8x8mm_Layout10x10_P0.8mm; Supplier: http://www.st.com/st-web-ui/static/active/en/resource/technical/document/datasheet/DM00273119.pdf
footprint TFBGA-100_8x8mm_Layout10x10_P0.8mm
pins: A1 PC14 (io), A2 PC13 (io), A3 PE2 (io), A4 PB9 (io), A5 PB7 (io), A6 PB4 (io), A7 PB3 (io), A8 PA15 (io), A9 PA14 (io), A10 PA13 (io), B1 PC15 (io), B2 VBAT (power), B3 PE3 (io), B4 PB8 (io), B5 PB6 (io), B6 PD5 (io), B7 PD2 (io), B8 PC11 (io), B9 PC10 (io), B10 PA12 (io), C1 PH0 (in), C2 VSS (power), C3 PE4 (io), C4 PE1 (io), C5 PB5 (io), C6 PD6 (io), C7 PD3 (io), C8 PC12 (io), C9 PA9 (io), C10 PA11 (io), D1 PH1 (in), D2 VDD (power), D3 PE5 (io), D4 PE0 (io), D5 BOOT0 (in), D6 PD7 (io), D7 PD4 (io), D8 PD0 (io), D9 PA8 (io), D10 PA10 (io), E1 NRST (in), E2 PC2 (io), E3 PE6 (io), E4 VSS (power), E5 VSS (power), E6 BYPASS_REG (in), E7 VCAP_2 (power), E8 PD1 (io), E9 PC9 (io), E10 PC7 (io), F1 PC0 (io), F2 PC1 (io), F3 PC3 (io), F4 VDD (power), F5 VDD (power), F6 VDDUSB (power), F7 PDR_ON (in), F8 VCAP_1 (power), F9 PC8 (io), F10 PC6 (io), G1 VSSA (power), G2 PA0 (io), G3 PA4 (io), G4 PC4 (io), G5 PB2 (io), G6 PE10 (io), G7 PE14 (io), G8 PD15 (io), G9 PD11 (io), G10 PB15 (io), H1 VDDA (power), H2 PA1 (io), H3 PA5 (io), H4 PC5 (io), H5 PE7 (io), H6 PE11 (io), H7 PE15 (io), H8 PD14 (io), H9 PD10 (io), H10 PB14 (io), J1 VSS (power), J2 PA2 (io), J3 PA6 (io), J4 PB0 (io), J5 PE8 (io), J6 PE12 (io), J7 PB10 (io), J8 PB13 (io), J9 PD9 (io), J10 PD13 (io), K1 VDD (power), K2 PA3 (io), K3 PA7 (io), K4 PB1 (io), K5 PE9 (io), K6 PE13 (io), K7 PB11 (io), K8 PB12 (io), K9 PD8 (io), K10 PD12 (io)

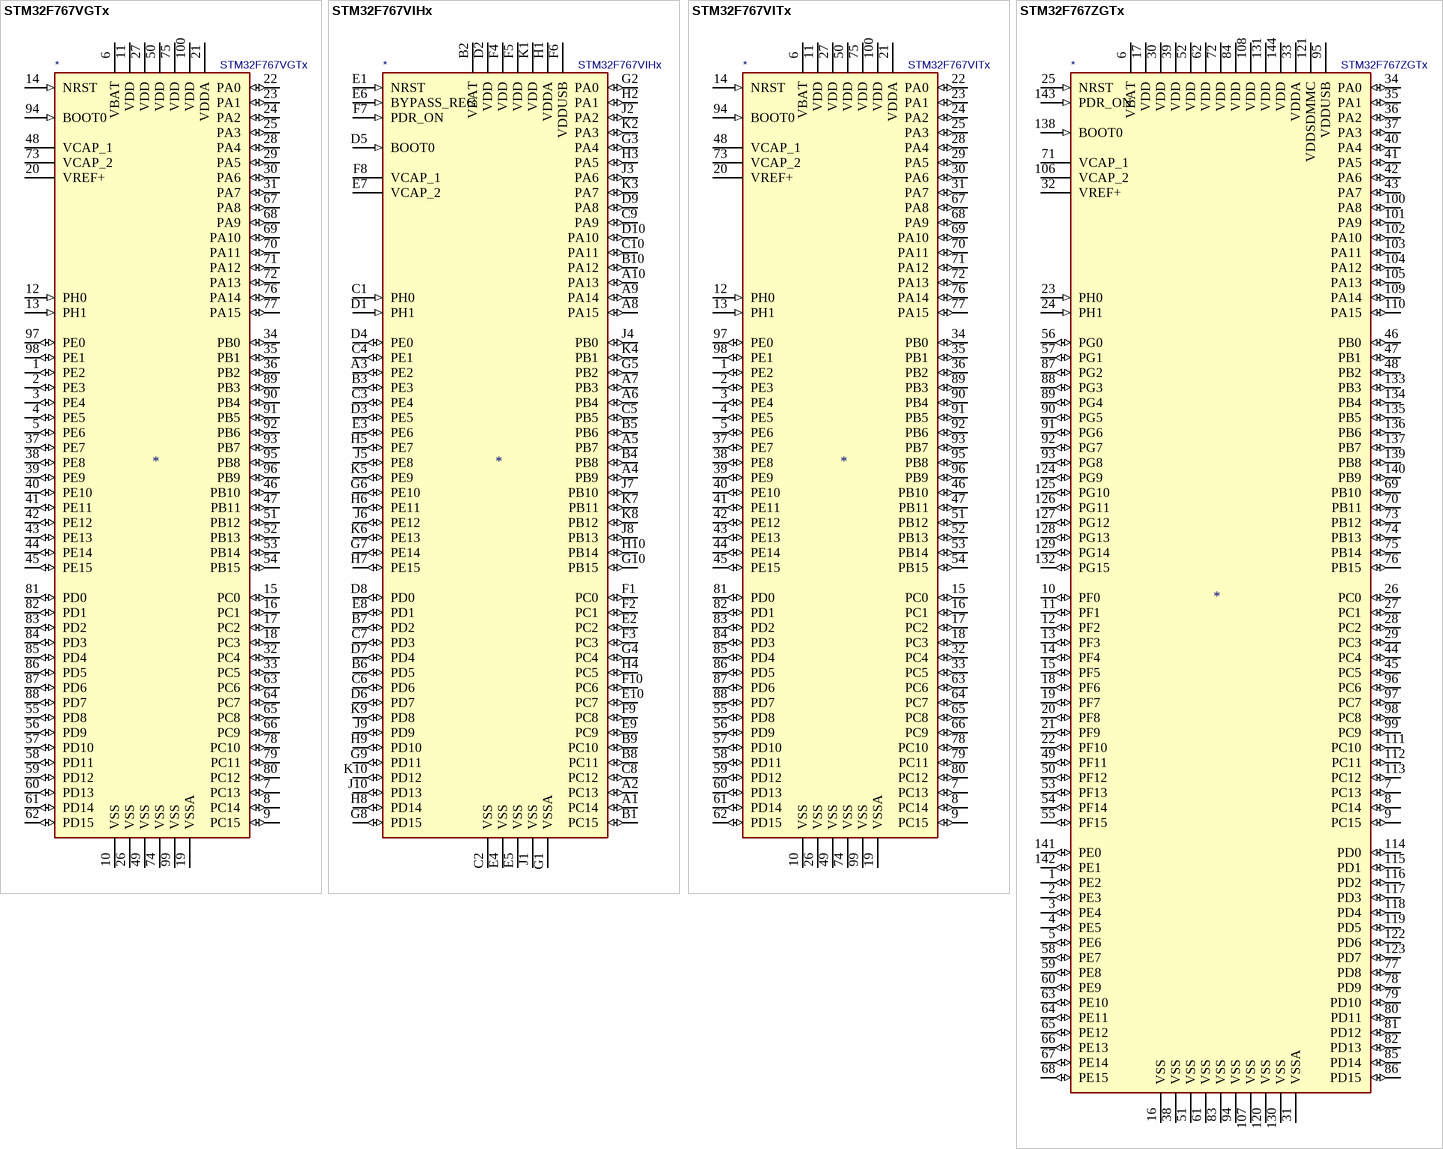
[diagram p32: symbols STM32F767VGTx to STM32F767ZGTx]

## STM32F767VGTx
designator *  value STM32F767VGTx
ki_keywords: ARM Cortex-M7 STM32F7 STM32F7x7; ki_description: ARM Cortex-M7 MCU, 1024KB flash, 384KB RAM, 216MHz, 1.7-3.6V, 82 GPIO, LQFP-100; ki_fp_filters: LQFP*14x14mm*P0.5mm*; Footprint: Package_QFP:LQFP-100_14x14mm_P0.5mm; Supplier: http://www.st.com/st-web-ui/static/active/en/resource/technical/document/datasheet/DM00273119.pdf
footprint LQFP-100_14x14mm_P0.5mm
pins: 1 PE2 (io), 2 PE3 (io), 3 PE4 (io), 4 PE5 (io), 5 PE6 (io), 6 VBAT (power), 7 PC13 (io), 8 PC14 (io), 9 PC15 (io), 10 VSS (power), 11 VDD (power), 12 PH0 (in), 13 PH1 (in), 14 NRST (in), 15 PC0 (io), 16 PC1 (io), 17 PC2 (io), 18 PC3 (io), 19 VSSA (power), 20 VREF+ (power), 21 VDDA (power), 22 PA0 (io), 23 PA1 (io), 24 PA2 (io), 25 PA3 (io), 26 VSS (power), 27 VDD (power), 28 PA4 (io), 29 PA5 (io), 30 PA6 (io), 31 PA7 (io), 32 PC4 (io), 33 PC5 (io), 34 PB0 (io), 35 PB1 (io), 36 PB2 (io), 37 PE7 (io), 38 PE8 (io), 39 PE9 (io), 40 PE10 (io), 41 PE11 (io), 42 PE12 (io), 43 PE13 (io), 44 PE14 (io), 45 PE15 (io), 46 PB10 (io), 47 PB11 (io), 48 VCAP_1 (power), 49 VSS (power), 50 VDD (power), 51 PB12 (io), 52 PB13 (io), 53 PB14 (io), 54 PB15 (io), 55 PD8 (io), 56 PD9 (io), 57 PD10 (io), 58 PD11 (io), 59 PD12 (io), 60 PD13 (io), 61 PD14 (io), 62 PD15 (io), 63 PC6 (io), 64 PC7 (io), 65 PC8 (io), 66 PC9 (io), 67 PA8 (io), 68 PA9 (io), 69 PA10 (io), 70 PA11 (io), 71 PA12 (io), 72 PA13 (io), 73 VCAP_2 (power), 74 VSS (power), 75 VDD (power), 76 PA14 (io), 77 PA15 (io), 78 PC10 (io), 79 PC11 (io), 80 PC12 (io), 81 PD0 (io), 82 PD1 (io), 83 PD2 (io), 84 PD3 (io), 85 PD4 (io), 86 PD5 (io), 87 PD6 (io), 88 PD7 (io), 89 PB3 (io), 90 PB4 (io), 91 PB5 (io), 92 PB6 (io), 93 PB7 (io), 94 BOOT0 (in), 95 PB8 (io), 96 PB9 (io), 97 PE0 (io), 98 PE1 (io), 99 VSS (power), 100 VDD (power)

## STM32F767VIHx
designator *  value STM32F767VIHx
ki_keywords: ARM Cortex-M7 STM32F7 STM32F7x7; ki_description: ARM Cortex-M7 MCU, 2048KB flash, 384KB RAM, 216MHz, 1.7-3.6V, 82 GPIO, TFBGA-100; ki_fp_filters: TFBGA*8x8mm*Layout10x10*P0.8mm*; Footprint: Package_BGA:TFBGA-100_8x8mm_Layout10x10_P0.8mm; Supplier: http://www.st.com/st-web-ui/static/active/en/resource/technical/document/datasheet/DM00273119.pdf
footprint TFBGA-100_8x8mm_Layout10x10_P0.8mm
pins: A1 PC14 (io), A2 PC13 (io), A3 PE2 (io), A4 PB9 (io), A5 PB7 (io), A6 PB4 (io), A7 PB3 (io), A8 PA15 (io), A9 PA14 (io), A10 PA13 (io), B1 PC15 (io), B2 VBAT (power), B3 PE3 (io), B4 PB8 (io), B5 PB6 (io), B6 PD5 (io), B7 PD2 (io), B8 PC11 (io), B9 PC10 (io), B10 PA12 (io), C1 PH0 (in), C2 VSS (power), C3 PE4 (io), C4 PE1 (io), C5 PB5 (io), C6 PD6 (io), C7 PD3 (io), C8 PC12 (io), C9 PA9 (io), C10 PA11 (io), D1 PH1 (in), D2 VDD (power), D3 PE5 (io), D4 PE0 (io), D5 BOOT0 (in), D6 PD7 (io), D7 PD4 (io), D8 PD0 (io), D9 PA8 (io), D10 PA10 (io), E1 NRST (in), E2 PC2 (io), E3 PE6 (io), E4 VSS (power), E5 VSS (power), E6 BYPASS_REG (in), E7 VCAP_2 (power), E8 PD1 (io), E9 PC9 (io), E10 PC7 (io), F1 PC0 (io), F2 PC1 (io), F3 PC3 (io), F4 VDD (power), F5 VDD (power), F6 VDDUSB (power), F7 PDR_ON (in), F8 VCAP_1 (power), F9 PC8 (io), F10 PC6 (io), G1 VSSA (power), G2 PA0 (io), G3 PA4 (io), G4 PC4 (io), G5 PB2 (io), G6 PE10 (io), G7 PE14 (io), G8 PD15 (io), G9 PD11 (io), G10 PB15 (io), H1 VDDA (power), H2 PA1 (io), H3 PA5 (io), H4 PC5 (io), H5 PE7 (io), H6 PE11 (io), H7 PE15 (io), H8 PD14 (io), H9 PD10 (io), H10 PB14 (io), J1 VSS (power), J2 PA2 (io), J3 PA6 (io), J4 PB0 (io), J5 PE8 (io), J6 PE12 (io), J7 PB10 (io), J8 PB13 (io), J9 PD9 (io), J10 PD13 (io), K1 VDD (power), K2 PA3 (io), K3 PA7 (io), K4 PB1 (io), K5 PE9 (io), K6 PE13 (io), K7 PB11 (io), K8 PB12 (io), K9 PD8 (io), K10 PD12 (io)

## STM32F767VITx
designator *  value STM32F767VITx
ki_keywords: ARM Cortex-M7 STM32F7 STM32F7x7; ki_description: ARM Cortex-M7 MCU, 2048KB flash, 384KB RAM, 216MHz, 1.7-3.6V, 82 GPIO, LQFP-100; ki_fp_filters: LQFP*14x14mm*P0.5mm*; Footprint: Package_QFP:LQFP-100_14x14mm_P0.5mm; Supplier: http://www.st.com/st-web-ui/static/active/en/resource/technical/document/datasheet/DM00273119.pdf
footprint LQFP-100_14x14mm_P0.5mm
pins: 1 PE2 (io), 2 PE3 (io), 3 PE4 (io), 4 PE5 (io), 5 PE6 (io), 6 VBAT (power), 7 PC13 (io), 8 PC14 (io), 9 PC15 (io), 10 VSS (power), 11 VDD (power), 12 PH0 (in), 13 PH1 (in), 14 NRST (in), 15 PC0 (io), 16 PC1 (io), 17 PC2 (io), 18 PC3 (io), 19 VSSA (power), 20 VREF+ (power), 21 VDDA (power), 22 PA0 (io), 23 PA1 (io), 24 PA2 (io), 25 PA3 (io), 26 VSS (power), 27 VDD (power), 28 PA4 (io), 29 PA5 (io), 30 PA6 (io), 31 PA7 (io), 32 PC4 (io), 33 PC5 (io), 34 PB0 (io), 35 PB1 (io), 36 PB2 (io), 37 PE7 (io), 38 PE8 (io), 39 PE9 (io), 40 PE10 (io), 41 PE11 (io), 42 PE12 (io), 43 PE13 (io), 44 PE14 (io), 45 PE15 (io), 46 PB10 (io), 47 PB11 (io), 48 VCAP_1 (power), 49 VSS (power), 50 VDD (power), 51 PB12 (io), 52 PB13 (io), 53 PB14 (io), 54 PB15 (io), 55 PD8 (io), 56 PD9 (io), 57 PD10 (io), 58 PD11 (io), 59 PD12 (io), 60 PD13 (io), 61 PD14 (io), 62 PD15 (io), 63 PC6 (io), 64 PC7 (io), 65 PC8 (io), 66 PC9 (io), 67 PA8 (io), 68 PA9 (io), 69 PA10 (io), 70 PA11 (io), 71 PA12 (io), 72 PA13 (io), 73 VCAP_2 (power), 74 VSS (power), 75 VDD (power), 76 PA14 (io), 77 PA15 (io), 78 PC10 (io), 79 PC11 (io), 80 PC12 (io), 81 PD0 (io), 82 PD1 (io), 83 PD2 (io), 84 PD3 (io), 85 PD4 (io), 86 PD5 (io), 87 PD6 (io), 88 PD7 (io), 89 PB3 (io), 90 PB4 (io), 91 PB5 (io), 92 PB6 (io), 93 PB7 (io), 94 BOOT0 (in), 95 PB8 (io), 96 PB9 (io), 97 PE0 (io), 98 PE1 (io), 99 VSS (power), 100 VDD (power)

## STM32F767ZGTx
designator *  value STM32F767ZGTx
ki_keywords: ARM Cortex-M7 STM32F7 STM32F7x7; ki_description: ARM Cortex-M7 MCU, 1024KB flash, 384KB RAM, 216MHz, 1.7-3.6V, 114 GPIO, LQFP-144; ki_fp_filters: LQFP*20x20mm*P0.5mm*; Footprint: Package_QFP:LQFP-144_20x20mm_P0.5mm; Supplier: http://www.st.com/st-web-ui/static/active/en/resource/technical/document/datasheet/DM00273119.pdf
footprint LQFP-144_20x20mm_P0.5mm
pins: 1 PE2 (io), 2 PE3 (io), 3 PE4 (io), 4 PE5 (io), 5 PE6 (io), 6 VBAT (power), 7 PC13 (io), 8 PC14 (io), 9 PC15 (io), 10 PF0 (io), 11 PF1 (io), 12 PF2 (io), 13 PF3 (io), 14 PF4 (io), 15 PF5 (io), 16 VSS (power), 17 VDD (power), 18 PF6 (io), 19 PF7 (io), 20 PF8 (io), 21 PF9 (io), 22 PF10 (io), 23 PH0 (in), 24 PH1 (in), 25 NRST (in), 26 PC0 (io), 27 PC1 (io), 28 PC2 (io), 29 PC3 (io), 30 VDD (power), 31 VSSA (power), 32 VREF+ (power), 33 VDDA (power), 34 PA0 (io), 35 PA1 (io), 36 PA2 (io), 37 PA3 (io), 38 VSS (power), 39 VDD (power), 40 PA4 (io), 41 PA5 (io), 42 PA6 (io), 43 PA7 (io), 44 PC4 (io), 45 PC5 (io), 46 PB0 (io), 47 PB1 (io), 48 PB2 (io), 49 PF11 (io), 50 PF12 (io), 51 VSS (power), 52 VDD (power), 53 PF13 (io), 54 PF14 (io), 55 PF15 (io), 56 PG0 (io), 57 PG1 (io), 58 PE7 (io), 59 PE8 (io), 60 PE9 (io), 61 VSS (power), 62 VDD (power), 63 PE10 (io), 64 PE11 (io), 65 PE12 (io), 66 PE13 (io), 67 PE14 (io), 68 PE15 (io), 69 PB10 (io), 70 PB11 (io), 71 VCAP_1 (power), 72 VDD (power), 73 PB12 (io), 74 PB13 (io), 75 PB14 (io), 76 PB15 (io), 77 PD8 (io), 78 PD9 (io), 79 PD10 (io), 80 PD11 (io), 81 PD12 (io), 82 PD13 (io), 83 VSS (power), 84 VDD (power), 85 PD14 (io), 86 PD15 (io), 87 PG2 (io), 88 PG3 (io), 89 PG4 (io), 90 PG5 (io), 91 PG6 (io), 92 PG7 (io), 93 PG8 (io), 94 VSS (power), 95 VDDUSB (power), 96 PC6 (io), 97 PC7 (io), 98 PC8 (io), 99 PC9 (io), 100 PA8 (io), 101 PA9 (io), 102 PA10 (io), 103 PA11 (io), 104 PA12 (io), 105 PA13 (io), 106 VCAP_2 (power), 107 VSS (power), 108 VDD (power), 109 PA14 (io), 110 PA15 (io), 111 PC10 (io), 112 PC11 (io), 113 PC12 (io), 114 PD0 (io), 115 PD1 (io), 116 PD2 (io), 117 PD3 (io), 118 PD4 (io), 119 PD5 (io), 120 VSS (power), 121 VDDSDMMC (power), 122 PD6 (io), 123 PD7 (io), 124 PG9 (io), 125 PG10 (io), 126 PG11 (io), 127 PG12 (io), 128 PG13 (io), 129 PG14 (io), 130 VSS (power), 131 VDD (power), 132 PG15 (io), 133 PB3 (io), 134 PB4 (io), 135 PB5 (io), 136 PB6 (io), 137 PB7 (io), 138 BOOT0 (in), 139 PB8 (io), 140 PB9 (io), 141 PE0 (io), 142 PE1 (io), 143 PDR_ON (in), 144 VDD (power)

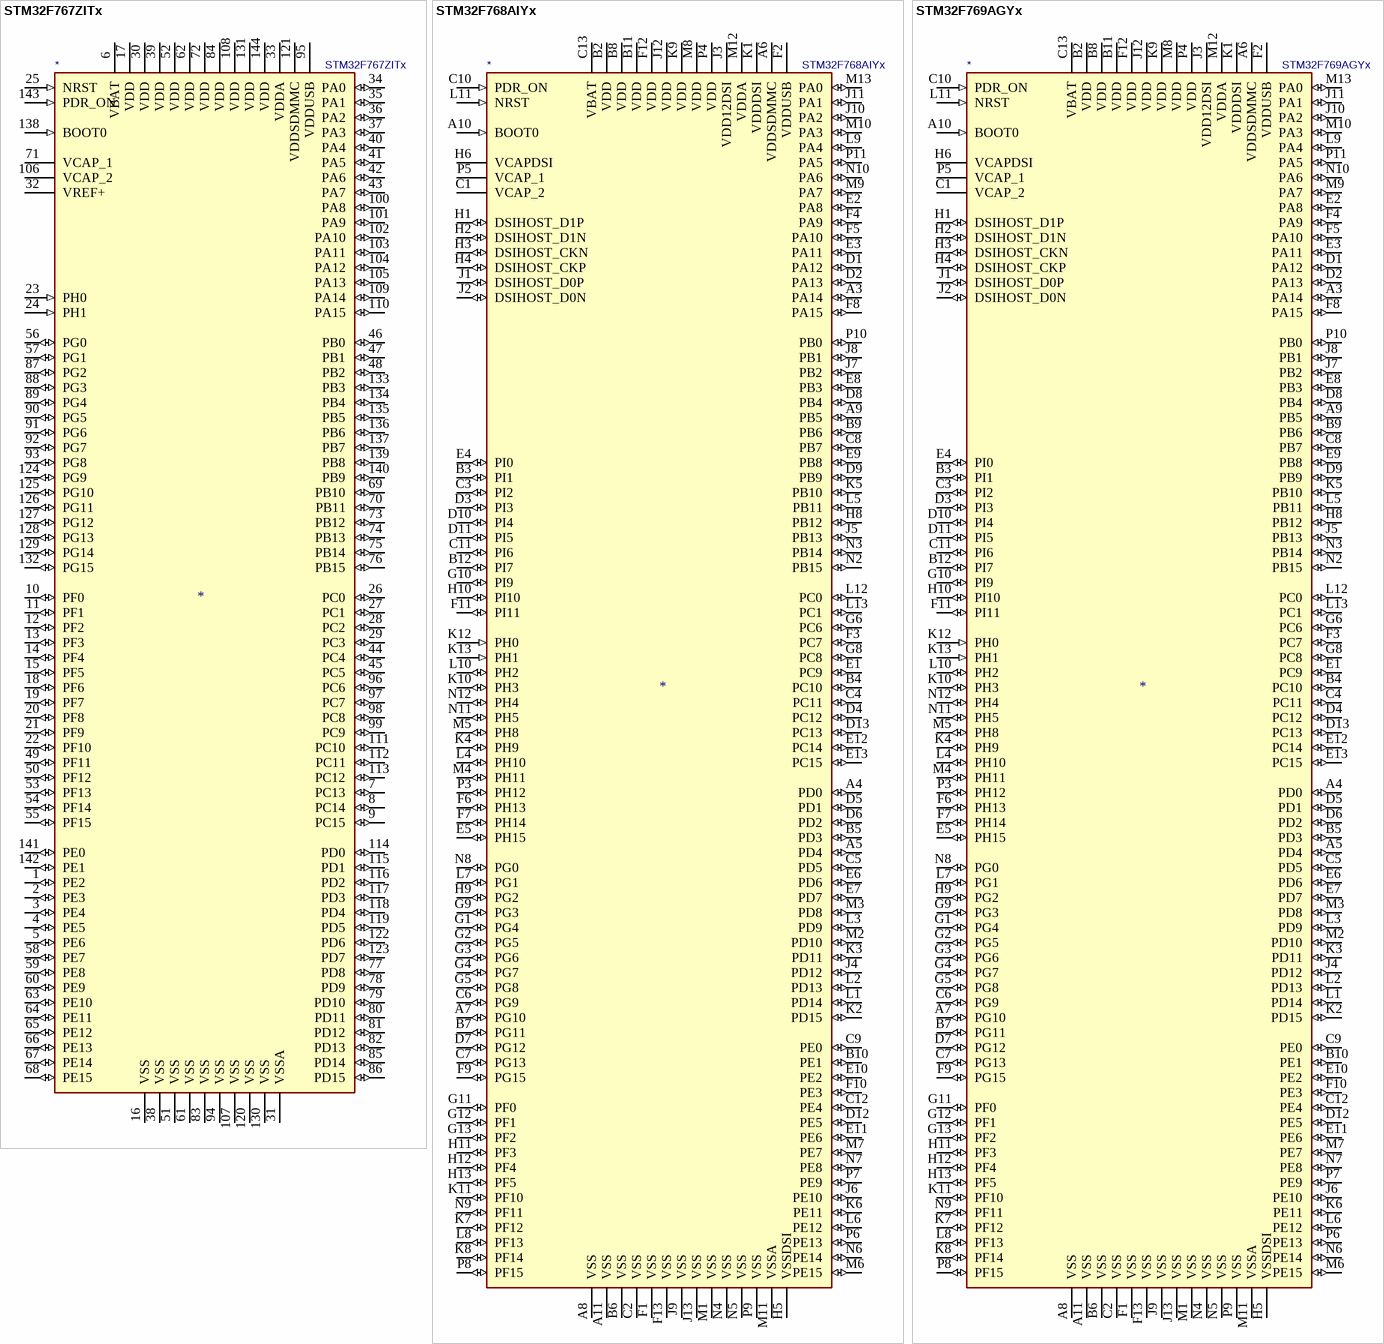
[diagram p33: symbols STM32F767ZITx to STM32F769AGYx]